# Altium schematic symbol library SparkFun-Retired.SCHLIB: 411 symbols (part 1 of 6)
Pins are listed as number, name and electrical type; pins without a type are passive.

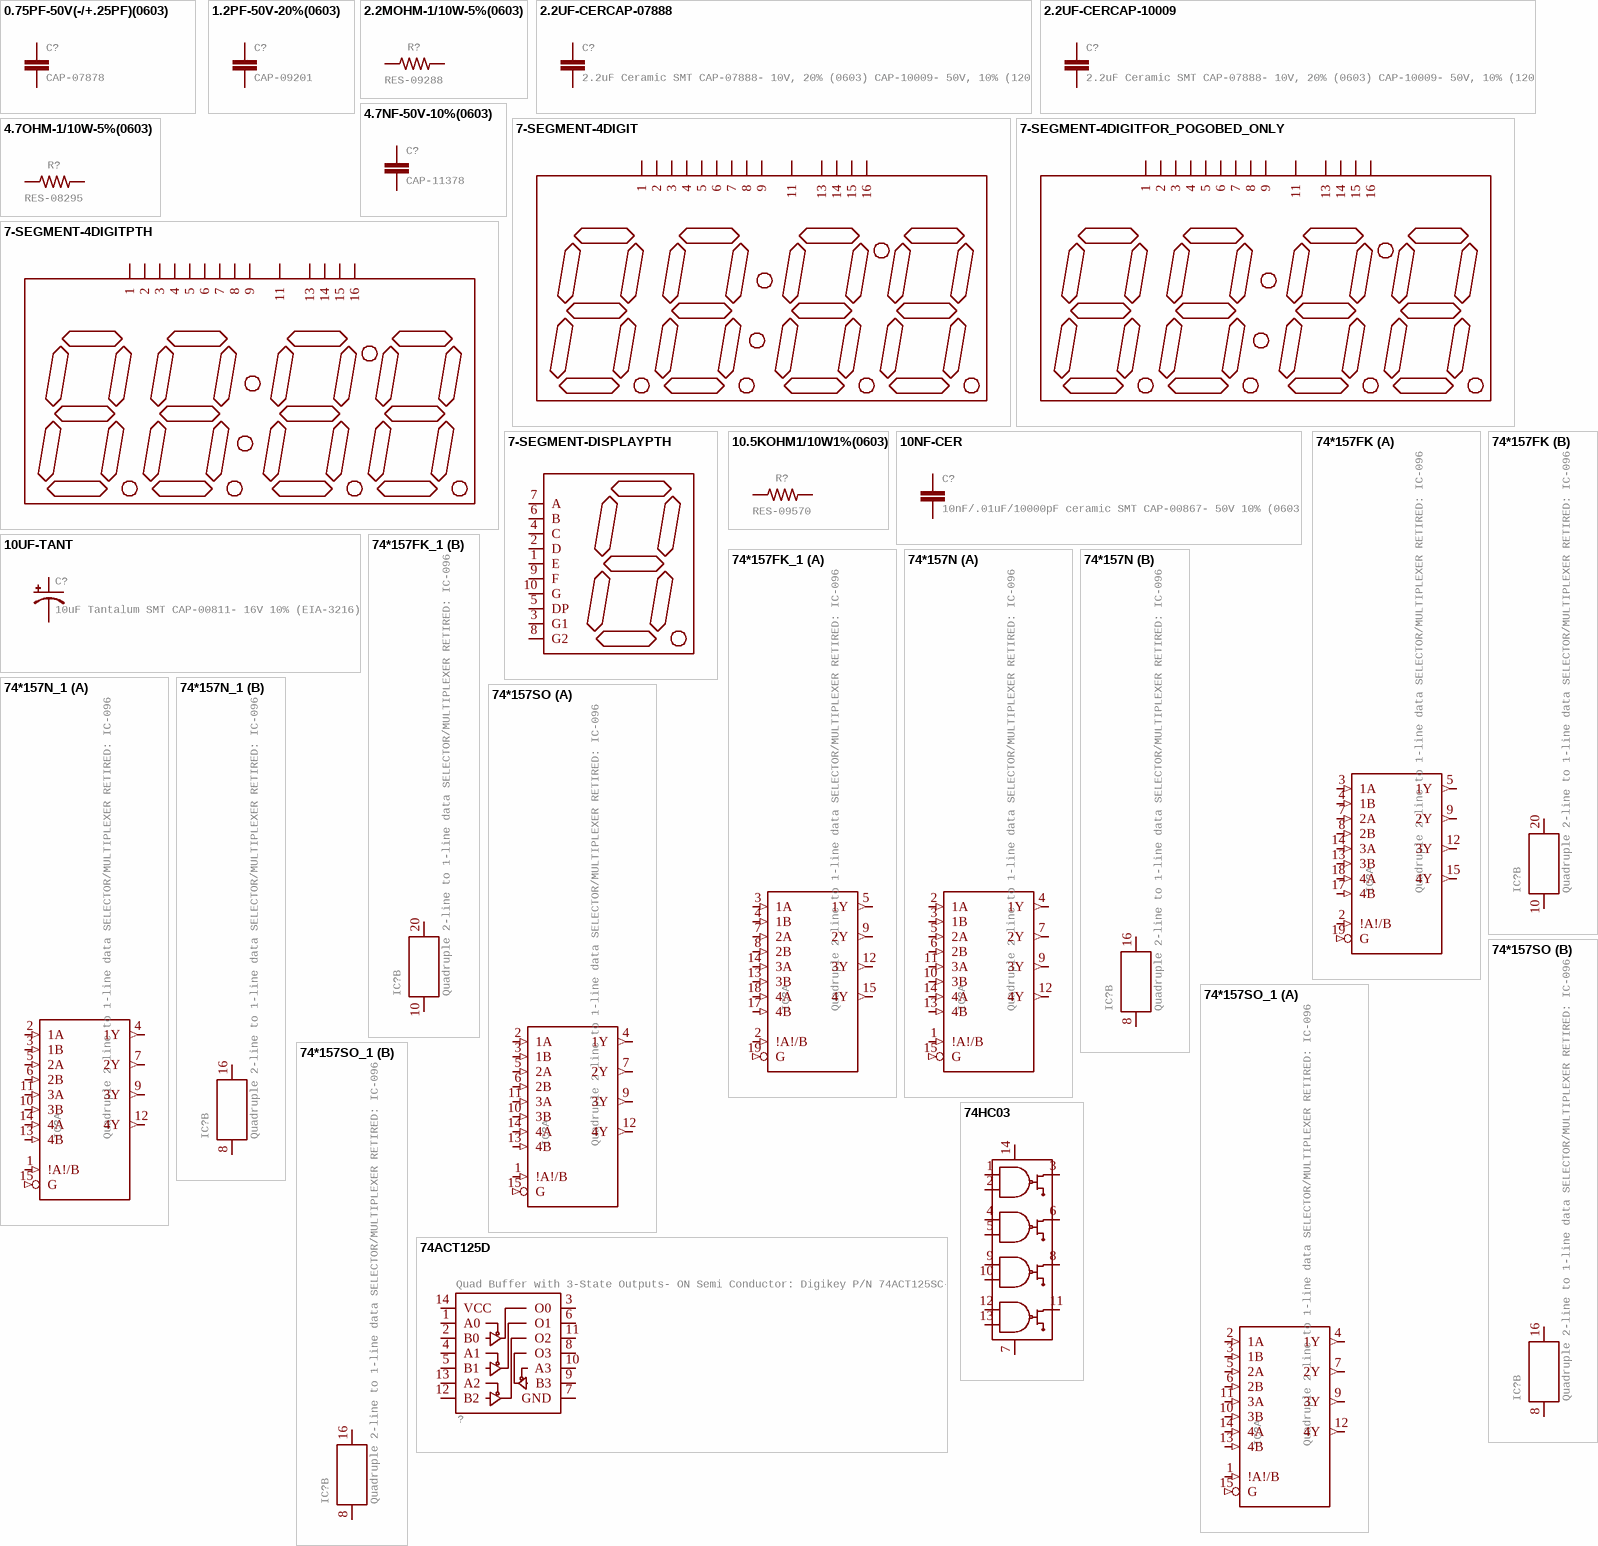
[diagram p0: symbols 0.75PF-50V(-/+.25PF)(0603) to 74HC03]

## 0.75PF-50V(-/+.25PF)(0603)
designator C?, comment CAP-07878
GateName_1: G$1; SymbolName_1: CAP-1; DeviceSetName: 0.75PF-50V(-/+.25PF)(0603); LibraryName: SparkFun-Retired; Package: 0603; PROD_ID: CAP-07878
footprint 0603
pins: 1, 2

## 1.2PF-50V-20%(0603)
designator C?, comment CAP-09201
GateName_1: G$1; SymbolName_1: CAP-1; DeviceSetName: 1.2PF-50V-20%(0603); LibraryName: SparkFun-Retired; Package: 0603; PROD_ID: CAP-09201
footprint 0603
pins: 1, 2

## 2.2MOHM-1/10W-5%(0603)
designator R?, comment RES-09288
GateName_1: G$1; SymbolName_1: RESISTOR; DeviceSetName: 2.2MOHM-1/10W-5%(0603); LibraryName: SparkFun-Retired; Package: 0603; PROD_ID: RES-09288
footprint 0603
pins: 1, 2

## 2.2UF-CERCAP-07888
designator C?, comment 2.2uF Ceramic SMT CAP-07888- 10V, 20% (0603) CAP-10009- 50V, 10% (1206)
GateName_1: G$1; SymbolName_1: CAP; DeviceSetName: 2.2UF-CER; DeviceName: CAP-07888; LibraryName: SparkFun-Retired; Package: 0402-CAP; PROD_ID: CAP-07888
footprint 0402-CAP
pins: 1, 2

## 2.2UF-CERCAP-10009
designator C?, comment 2.2uF Ceramic SMT CAP-07888- 10V, 20% (0603) CAP-10009- 50V, 10% (1206)
GateName_1: G$1; SymbolName_1: CAP; DeviceSetName: 2.2UF-CER; DeviceName: CAP-10009; LibraryName: SparkFun-Retired; Package: 1206; PROD_ID: CAP-10009
footprint 1206
pins: 1, 2

## 4.7NF-50V-10%(0603)
designator C?, comment CAP-11378
GateName_1: G$1; SymbolName_1: CAP-1; DeviceSetName: 4.7NF-50V-10%(0603); LibraryName: SparkFun-Retired; Package: 0603; PROD_ID: CAP-11378
footprint 0603
pins: 1, 2

## 4.7OHM-1/10W-5%(0603)
designator R?, comment RES-08295
GateName_1: G$1; SymbolName_1: RESISTOR; DeviceSetName: 4.7OHM-1/10W-5%(0603); LibraryName: SparkFun-Retired; Package: 0603; PROD_ID: RES-08295
footprint 0603
pins: 1, 2

## 7-SEGMENT-4DIGIT
designator ?
GateName_1: G$1; SymbolName_1: 7-SEGMENT-4DIGIT; LibraryName: SparkFun-Retired; DeviceSetName: 7-SEGMENT-4DIGIT; Package: 7-SEGMENT-4DIGIT-YOUNGSUN
footprint 7-SEGMENT-4DIGIT-YOUNGSUN
pins: 1 (io), 2 (io), 3 (io), 4 (io), 5 (io), 6 (io), 7 (io), 8 (io), 9 (io), 11 (io), 13 (io), 14 (io), 15 (io), 16 (io)

## 7-SEGMENT-4DIGITFOR_POGOBED_ONLY
designator ?
GateName_1: G$1; SymbolName_1: 7-SEGMENT-4DIGIT; DeviceName: FOR_POGOBED_ONLY; LibraryName: SparkFun-Retired; DeviceSetName: 7-SEGMENT-4DIGIT; Package: 7-SEGMENT-4DIGIT_LONGPADS_FOR_POGOBED
footprint 7-SEGMENT-4DIGIT_LONGPADS_FOR_POGOBED
pins: 1 (io), 2 (io), 3 (io), 4 (io), 5 (io), 6 (io), 7 (io), 8 (io), 9 (io), 11 (io), 13 (io), 14 (io), 15 (io), 16 (io)

## 7-SEGMENT-4DIGITPTH
designator ?
GateName_1: G$1; SymbolName_1: 7-SEGMENT-4DIGIT; DeviceName: PTH; LibraryName: SparkFun-Retired; DeviceSetName: 7-SEGMENT-4DIGIT; Package: 7-SEGMENT-4DIGIT
footprint 7-SEGMENT-4DIGIT
pins: 1 (io), 2 (io), 3 (io), 4 (io), 5 (io), 6 (io), 7 (io), 8 (io), 9 (io), 11 (io), 13 (io), 14 (io), 15 (io), 16 (io)

## 7-SEGMENT-DISPLAYPTH
designator ?
GateName_1: G$1; SymbolName_1: 7-SEGMENT-DISPLAY; DeviceName: PTH; LibraryName: SparkFun-Retired; DeviceSetName: 7-SEGMENT-DISPLAY; Package: 7-SEGMENT-DISPLAY
footprint 7-SEGMENT-DISPLAY
pins: 1 E (io), 2 D (io), 3 G1 (io), 4 C (io), 5 DP (io), 6 B (io), 7 A (io), 8 G2 (io), 9 F (io), 10 G (io)

## 10.5KOHM1/10W1%(0603)
designator R?, comment RES-09570
GateName_1: G$1; SymbolName_1: RESISTOR; DeviceSetName: 10.5KOHM1/10W1%(0603); LibraryName: SparkFun-Retired; Package: 0603; PROD_ID: RES-09570
footprint 0603
pins: 1, 2

## 10NF-CER
designator C?, comment 10nF/.01uF/10000pF ceramic SMT CAP-00867- 50V 10% (0603)
GateName_1: G$1; SymbolName_1: CAP; DeviceSetName: 10NF-CER; LibraryName: SparkFun-Retired; Package: 0402-CAP; PROD_ID: CAP-00867
footprint 0402-CAP
pins: 1, 2

## 10UF-TANT
designator C?, comment 10uF Tantalum SMT CAP-00811- 16V 10% (EIA-3216)
GateName_1: G$1; SymbolName_1: CAP_POL; DeviceSetName: 10UF-TANT; LibraryName: SparkFun-Retired; Package: EIA3216; PROD_ID: CAP-00811
footprint EIA3216
pins: A +, C -

## 74*157FK
designator IC?, comment Quadruple 2-line to 1-line data SELECTOR/MULTIPLEXER RETIRED: IC-09602
GateName_1: A; SymbolName_1: 74157; GateName_2: G$1; SymbolName_2: POWER_CONSORT; DeviceName: FK; DeviceSetName: 74*157; LibraryName: SparkFun-Retired; Package: LCC20
footprint LCC20
part A pins: 2 !A!/B (in), 3 1A (in), 4 1B (in), 5 1Y (out), 7 2A (in), 8 2B (in), 9 2Y (out), 12 3Y (out), 13 3B (in), 14 3A (in), 15 4Y (out), 17 4B (in), 18 4A (in), 19 G (in)
part B pins: 10 P$V- (io), 20 P$V+ (io)

## 74*157FK_1
designator IC?, comment Quadruple 2-line to 1-line data SELECTOR/MULTIPLEXER RETIRED: IC-09602
GateName_1: A; SymbolName_1: 74157; GateName_2: G$1; SymbolName_2: POWER_CONSORT; DeviceName: FK; DeviceSetName: 74*157; LibraryName: SparkFun-Retired; Package: LCC20
footprint LCC20
part A pins: 2 !A!/B (in), 3 1A (in), 4 1B (in), 5 1Y (out), 7 2A (in), 8 2B (in), 9 2Y (out), 12 3Y (out), 13 3B (in), 14 3A (in), 15 4Y (out), 17 4B (in), 18 4A (in), 19 G (in)
part B pins: 10 P$V- (io), 20 P$V+ (io)

## 74*157N
designator IC?, comment Quadruple 2-line to 1-line data SELECTOR/MULTIPLEXER RETIRED: IC-09602
GateName_1: A; SymbolName_1: 74157; GateName_2: G$1; SymbolName_2: POWER_CONSORT; DeviceName: N; DeviceSetName: 74*157; LibraryName: SparkFun-Retired; Package: DIP16
footprint DIP16
part A pins: 1 !A!/B (in), 2 1A (in), 3 1B (in), 4 1Y (out), 5 2A (in), 6 2B (in), 7 2Y (out), 9 3Y (out), 10 3B (in), 11 3A (in), 12 4Y (out), 13 4B (in), 14 4A (in), 15 G (in)
part B pins: 8 P$V- (io), 16 P$V+ (io)

## 74*157N_1
designator IC?, comment Quadruple 2-line to 1-line data SELECTOR/MULTIPLEXER RETIRED: IC-09602
GateName_1: A; SymbolName_1: 74157; GateName_2: G$1; SymbolName_2: POWER_CONSORT; DeviceName: N; DeviceSetName: 74*157; LibraryName: SparkFun-Retired; Package: DIP16
footprint DIP16
part A pins: 1 !A!/B (in), 2 1A (in), 3 1B (in), 4 1Y (out), 5 2A (in), 6 2B (in), 7 2Y (out), 9 3Y (out), 10 3B (in), 11 3A (in), 12 4Y (out), 13 4B (in), 14 4A (in), 15 G (in)
part B pins: 8 P$V- (io), 16 P$V+ (io)

## 74*157SO
designator IC?, comment Quadruple 2-line to 1-line data SELECTOR/MULTIPLEXER RETIRED: IC-09602
GateName_1: A; SymbolName_1: 74157; GateName_2: G$1; SymbolName_2: POWER_CONSORT; DeviceName: SO; DeviceSetName: 74*157; LibraryName: SparkFun-Retired; Package: SO16
footprint SO16
part A pins: 1 !A!/B (in), 2 1A (in), 3 1B (in), 4 1Y (out), 5 2A (in), 6 2B (in), 7 2Y (out), 9 3Y (out), 10 3B (in), 11 3A (in), 12 4Y (out), 13 4B (in), 14 4A (in), 15 G (in)
part B pins: 8 P$V- (io), 16 P$V+ (io)

## 74*157SO_1
designator IC?, comment Quadruple 2-line to 1-line data SELECTOR/MULTIPLEXER RETIRED: IC-09602
GateName_1: A; SymbolName_1: 74157; GateName_2: G$1; SymbolName_2: POWER_CONSORT; DeviceName: SO; DeviceSetName: 74*157; LibraryName: SparkFun-Retired; Package: SO16
footprint SO16
part A pins: 1 !A!/B (in), 2 1A (in), 3 1B (in), 4 1Y (out), 5 2A (in), 6 2B (in), 7 2Y (out), 9 3Y (out), 10 3B (in), 11 3A (in), 12 4Y (out), 13 4B (in), 14 4A (in), 15 G (in)
part B pins: 8 P$V- (io), 16 P$V+ (io)

## 74ACT125D
designator ?, comment Quad Buffer with 3-State Outputs- ON Semi Conductor: Digikey P/N 74ACT125SC-ND
GateName_1: G$1; SymbolName_1: 74ACT125D; LibraryName: SparkFun-Retired; DeviceSetName: 74ACT125D; Package: SO014
footprint SO014
pins: 1 A0 (io), 2 B0 (io), 3 O0 (io), 4 A1 (io), 5 B1 (io), 6 O1 (io), 7 GND (io), 8 O3 (io), 9 B3 (io), 10 A3 (io), 11 O2 (io), 12 B2 (io), 13 A2 (io), 14 VCC (io)

## 74HC03
designator ?, comment Quad 2-input open-drain NAND 2-5V operating voltage Some part numbers may include a clamping diode from OD output to VCC; check datasheet for specific part. We use an NXP part which does NOT have a clamping diode.   Doesn't seem to be in inventory anywhere.  We have nands but not open-drain  (value not drawn)
GateName_1: G$1; SymbolName_1: 74HC03; LibraryName: SparkFun-Retired; DeviceSetName: 74HC03; Package: TSSOP14
footprint TSSOP14
pins: 1 A1 (io), 2 B1 (io), 3 Y1 (io), 4 A2 (io), 5 B2 (io), 6 Y2 (io), 7 VSS (io), 8 Y3 (io), 9 A3 (io), 10 B3 (io), 11 Y4 (io), 12 A4 (io), 13 B4 (io), 14 VCC (io)

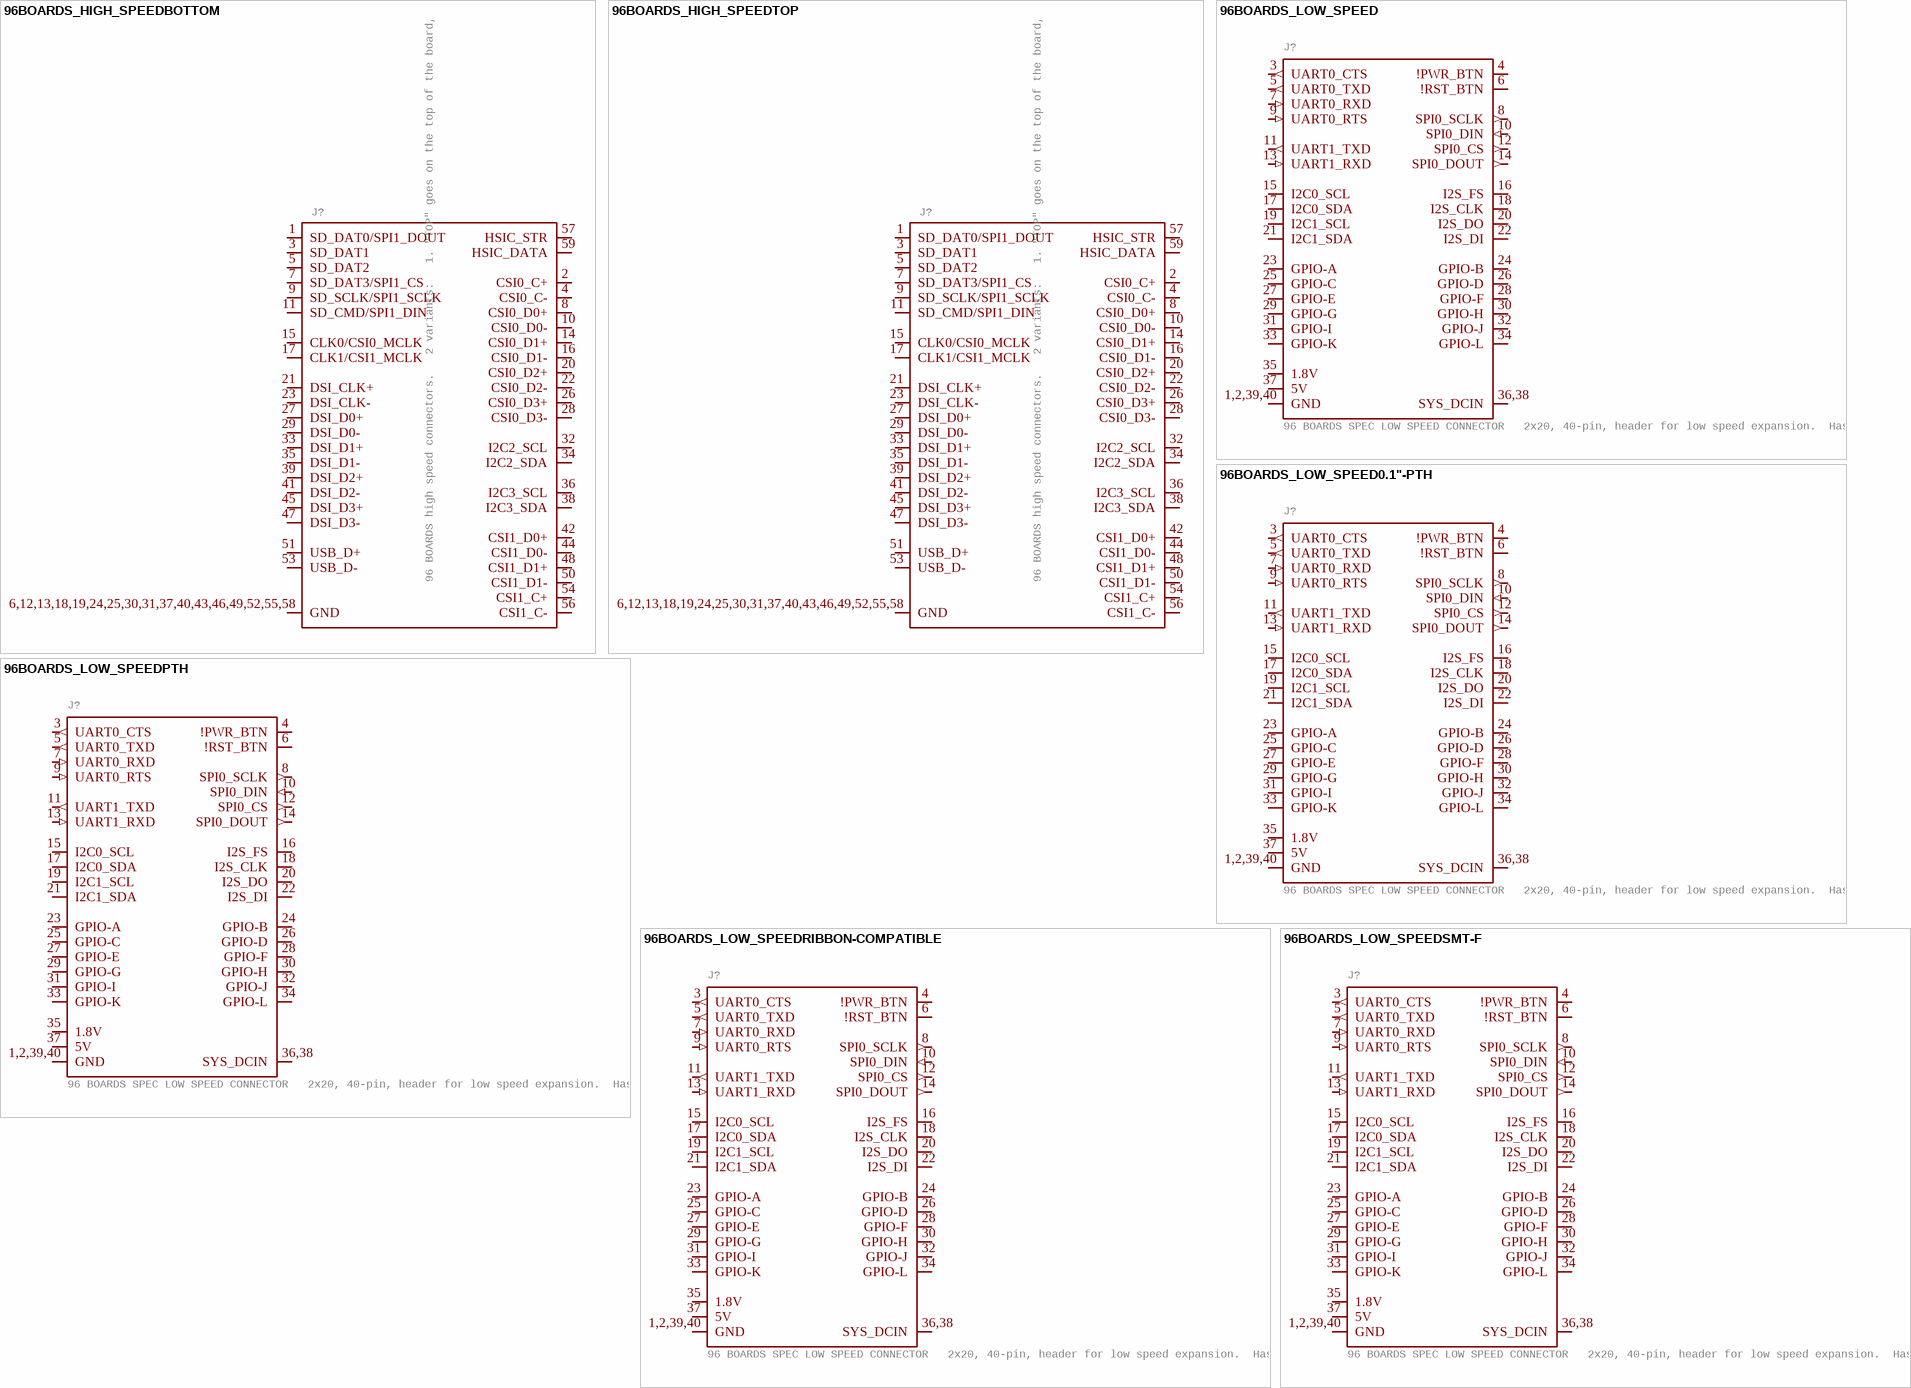
[diagram p1: symbols 96BOARDS_HIGH_SPEEDBOTTOM to 96BOARDS_LOW_SPEEDSMT-F]

## 96BOARDS_HIGH_SPEEDBOTTOM
designator J?, comment 96 BOARDS high speed connectors.   2 variants:   1. "TOP" goes on the top of the board, called a "Receptacale" in the parlance.  Candidate parts would be FCI/Bergquist 61082-061409LF   2. "BOTTOM" goes on the bottom of a board.  Candidate parts would be FCI 61083-063409LF for 7mm board-to-board clearance, or  61083-064409LF for 8mm clearance.   If you're placing one on the bottom of a board, take care to mind the pin-1 orientation.
GateName_1: G$1; SymbolName_1: 96BOARDS-HI-SPEED; DeviceSetName: 96BOARDS_HIGH_SPEED; DeviceName: BOTTOM; LibraryName: SparkFun-Retired; Package: 2X30-BERGSTAK-0.8MM-F
footprint 2X30-BERGSTAK-0.8MM-F
pins: 1 SD_DAT0/SPI1_DOUT (io), 2 CSI0_C+ (io), 3 SD_DAT1 (io), 4 CSI0_C- (io), 5 SD_DAT2 (io), 6,12,13,18,19,24,25,30,31,37,40,43,46,49,52,55,58 GND (io), 7 SD_DAT3/SPI1_CS (io), 8 CSI0_D0+ (io), 9 SD_SCLK/SPI1_SCLK (io), 10 CSI0_D0- (io), 11 SD_CMD/SPI1_DIN (io), 14 CSI0_D1+ (io), 15 CLK0/CSI0_MCLK (io), 16 CSI0_D1- (io), 17 CLK1/CSI1_MCLK (io), 20 CSI0_D2+ (io), 21 DSI_CLK+ (io), 22 CSI0_D2- (io), 23 DSI_CLK- (io), 26 CSI0_D3+ (io), 27 DSI_D0+ (io), 28 CSI0_D3- (io), 29 DSI_D0- (io), 32 I2C2_SCL (io), 33 DSI_D1+ (io), 34 I2C2_SDA (io), 35 DSI_D1- (io), 36 I2C3_SCL (io), 38 I2C3_SDA (io), 39 DSI_D2+ (io), 41 DSI_D2- (io), 42 CSI1_D0+ (io), 44 CSI1_D0- (io), 45 DSI_D3+ (io), 47 DSI_D3- (io), 48 CSI1_D1+ (io), 50 CSI1_D1- (io), 51 USB_D+ (io), 53 USB_D- (io), 54 CSI1_C+ (io), 56 CSI1_C- (io), 57 HSIC_STR (io), 59 HSIC_DATA (io)

## 96BOARDS_HIGH_SPEEDTOP
designator J?, comment 96 BOARDS high speed connectors.   2 variants:   1. "TOP" goes on the top of the board, called a "Receptacale" in the parlance.  Candidate parts would be FCI/Bergquist 61082-061409LF   2. "BOTTOM" goes on the bottom of a board.  Candidate parts would be FCI 61083-063409LF for 7mm board-to-board clearance, or  61083-064409LF for 8mm clearance.   If you're placing one on the bottom of a board, take care to mind the pin-1 orientation.
GateName_1: G$1; SymbolName_1: 96BOARDS-HI-SPEED; DeviceSetName: 96BOARDS_HIGH_SPEED; DeviceName: TOP; LibraryName: SparkFun-Retired; Package: 2X30-BERGSTAK-0.8MM-M
footprint 2X30-BERGSTAK-0.8MM-M
pins: 1 SD_DAT0/SPI1_DOUT (io), 2 CSI0_C+ (io), 3 SD_DAT1 (io), 4 CSI0_C- (io), 5 SD_DAT2 (io), 6,12,13,18,19,24,25,30,31,37,40,43,46,49,52,55,58 GND (io), 7 SD_DAT3/SPI1_CS (io), 8 CSI0_D0+ (io), 9 SD_SCLK/SPI1_SCLK (io), 10 CSI0_D0- (io), 11 SD_CMD/SPI1_DIN (io), 14 CSI0_D1+ (io), 15 CLK0/CSI0_MCLK (io), 16 CSI0_D1- (io), 17 CLK1/CSI1_MCLK (io), 20 CSI0_D2+ (io), 21 DSI_CLK+ (io), 22 CSI0_D2- (io), 23 DSI_CLK- (io), 26 CSI0_D3+ (io), 27 DSI_D0+ (io), 28 CSI0_D3- (io), 29 DSI_D0- (io), 32 I2C2_SCL (io), 33 DSI_D1+ (io), 34 I2C2_SDA (io), 35 DSI_D1- (io), 36 I2C3_SCL (io), 38 I2C3_SDA (io), 39 DSI_D2+ (io), 41 DSI_D2- (io), 42 CSI1_D0+ (io), 44 CSI1_D0- (io), 45 DSI_D3+ (io), 47 DSI_D3- (io), 48 CSI1_D1+ (io), 50 CSI1_D1- (io), 51 USB_D+ (io), 53 USB_D- (io), 54 CSI1_C+ (io), 56 CSI1_C- (io), 57 HSIC_STR (io), 59 HSIC_DATA (io)

## 96BOARDS_LOW_SPEED
designator J?, comment 96 BOARDS SPEC LOW SPEED CONNECTOR   2x20, 40-pin, header for low speed expansion.  Has UARTS, I2C, I2S, SPI and GPIO.  * 2mm-pitch variant interfaces directly with the header on a 96-boards-compliant board. * 0.1-pitch version is for applications where the header has been translated to the larger, more available 0.1" 2x20 connector.  For more details, see the spec at https://www.96boards.org
GateName_1: G$1; SymbolName_1: 96BOARDS-LO-SPEED; DeviceSetName: 96BOARDS_LOW_SPEED; LibraryName: SparkFun-Retired; Package: 2X20-2MM-SHROUDED-RA-PTH
footprint 2X20-2MM-SHROUDED-RA-PTH
pins: 1,2,39,40 GND (power), 3 UART0_CTS (out), 4 !PWR_BTN (io), 5 UART0_TXD (out), 6 !RST_BTN (io), 7 UART0_RXD (in), 8 SPI0_SCLK (out), 9 UART0_RTS (in), 10 SPI0_DIN (in), 11 UART1_TXD (out), 12 SPI0_CS (out), 13 UART1_RXD (in), 14 SPI0_DOUT (out), 15 I2C0_SCL (io), 16 I2S_FS (io), 17 I2C0_SDA (io), 18 I2S_CLK (io), 19 I2C1_SCL (io), 20 I2S_DO (io), 21 I2C1_SDA (io), 22 I2S_DI (io), 23 GPIO-A (io), 24 GPIO-B (io), 25 GPIO-C (io), 26 GPIO-D (io), 27 GPIO-E (io), 28 GPIO-F (io), 29 GPIO-G (io), 30 GPIO-H (io), 31 GPIO-I (io), 32 GPIO-J (io), 33 GPIO-K (io), 34 GPIO-L (io), 35 1.8V (power), 36,38 SYS_DCIN (power), 37 5V (power)

## 96BOARDS_LOW_SPEED0.1"-PTH
designator J?, comment 96 BOARDS SPEC LOW SPEED CONNECTOR   2x20, 40-pin, header for low speed expansion.  Has UARTS, I2C, I2S, SPI and GPIO.  * 2mm-pitch variant interfaces directly with the header on a 96-boards-compliant board. * 0.1-pitch version is for applications where the header has been translated to the larger, more available 0.1" 2x20 connector.  For more details, see the spec at https://www.96boards.org
GateName_1: G$1; SymbolName_1: 96BOARDS-LO-SPEED; DeviceName: 0.1"-PTH; DeviceSetName: 96BOARDS_LOW_SPEED; LibraryName: SparkFun-Retired; Package: 2X20-SHROUDED
footprint 2X20-SHROUDED
pins: 1,2,39,40 GND (power), 3 UART0_CTS (out), 4 !PWR_BTN (io), 5 UART0_TXD (out), 6 !RST_BTN (io), 7 UART0_RXD (in), 8 SPI0_SCLK (out), 9 UART0_RTS (in), 10 SPI0_DIN (in), 11 UART1_TXD (out), 12 SPI0_CS (out), 13 UART1_RXD (in), 14 SPI0_DOUT (out), 15 I2C0_SCL (io), 16 I2S_FS (io), 17 I2C0_SDA (io), 18 I2S_CLK (io), 19 I2C1_SCL (io), 20 I2S_DO (io), 21 I2C1_SDA (io), 22 I2S_DI (io), 23 GPIO-A (io), 24 GPIO-B (io), 25 GPIO-C (io), 26 GPIO-D (io), 27 GPIO-E (io), 28 GPIO-F (io), 29 GPIO-G (io), 30 GPIO-H (io), 31 GPIO-I (io), 32 GPIO-J (io), 33 GPIO-K (io), 34 GPIO-L (io), 35 1.8V (power), 36,38 SYS_DCIN (power), 37 5V (power)

## 96BOARDS_LOW_SPEEDPTH
designator J?, comment 96 BOARDS SPEC LOW SPEED CONNECTOR   2x20, 40-pin, header for low speed expansion.  Has UARTS, I2C, I2S, SPI and GPIO.  * 2mm-pitch variant interfaces directly with the header on a 96-boards-compliant board. * 0.1-pitch version is for applications where the header has been translated to the larger, more available 0.1" 2x20 connector.  For more details, see the spec at https://www.96boards.org
GateName_1: G$1; SymbolName_1: 96BOARDS-LO-SPEED; DeviceName: PTH; DeviceSetName: 96BOARDS_LOW_SPEED; LibraryName: SparkFun-Retired; Package: 2X20-2MM-SHROUDED-PTH
footprint 2X20-2MM-SHROUDED-PTH
pins: 1,2,39,40 GND (power), 3 UART0_CTS (out), 4 !PWR_BTN (io), 5 UART0_TXD (out), 6 !RST_BTN (io), 7 UART0_RXD (in), 8 SPI0_SCLK (out), 9 UART0_RTS (in), 10 SPI0_DIN (in), 11 UART1_TXD (out), 12 SPI0_CS (out), 13 UART1_RXD (in), 14 SPI0_DOUT (out), 15 I2C0_SCL (io), 16 I2S_FS (io), 17 I2C0_SDA (io), 18 I2S_CLK (io), 19 I2C1_SCL (io), 20 I2S_DO (io), 21 I2C1_SDA (io), 22 I2S_DI (io), 23 GPIO-A (io), 24 GPIO-B (io), 25 GPIO-C (io), 26 GPIO-D (io), 27 GPIO-E (io), 28 GPIO-F (io), 29 GPIO-G (io), 30 GPIO-H (io), 31 GPIO-I (io), 32 GPIO-J (io), 33 GPIO-K (io), 34 GPIO-L (io), 35 1.8V (power), 36,38 SYS_DCIN (power), 37 5V (power)

## 96BOARDS_LOW_SPEEDRIBBON-COMPATIBLE
designator J?, comment 96 BOARDS SPEC LOW SPEED CONNECTOR   2x20, 40-pin, header for low speed expansion.  Has UARTS, I2C, I2S, SPI and GPIO.  * 2mm-pitch variant interfaces directly with the header on a 96-boards-compliant board. * 0.1-pitch version is for applications where the header has been translated to the larger, more available 0.1" 2x20 connector.  For more details, see the spec at https://www.96boards.org
GateName_1: G$1; SymbolName_1: 96BOARDS-LO-SPEED; DeviceName: RIBBON-COMPATIBLE; DeviceSetName: 96BOARDS_LOW_SPEED; LibraryName: SparkFun-Retired; Package: 2X20-2MM-SHROUDED-SMT-RIBBON-M
footprint 2X20-2MM-SHROUDED-SMT-RIBBON-M
pins: 1,2,39,40 GND (power), 3 UART0_CTS (out), 4 !PWR_BTN (io), 5 UART0_TXD (out), 6 !RST_BTN (io), 7 UART0_RXD (in), 8 SPI0_SCLK (out), 9 UART0_RTS (in), 10 SPI0_DIN (in), 11 UART1_TXD (out), 12 SPI0_CS (out), 13 UART1_RXD (in), 14 SPI0_DOUT (out), 15 I2C0_SCL (io), 16 I2S_FS (io), 17 I2C0_SDA (io), 18 I2S_CLK (io), 19 I2C1_SCL (io), 20 I2S_DO (io), 21 I2C1_SDA (io), 22 I2S_DI (io), 23 GPIO-A (io), 24 GPIO-B (io), 25 GPIO-C (io), 26 GPIO-D (io), 27 GPIO-E (io), 28 GPIO-F (io), 29 GPIO-G (io), 30 GPIO-H (io), 31 GPIO-I (io), 32 GPIO-J (io), 33 GPIO-K (io), 34 GPIO-L (io), 35 1.8V (power), 36,38 SYS_DCIN (power), 37 5V (power)

## 96BOARDS_LOW_SPEEDSMT-F
designator J?, comment 96 BOARDS SPEC LOW SPEED CONNECTOR   2x20, 40-pin, header for low speed expansion.  Has UARTS, I2C, I2S, SPI and GPIO.  * 2mm-pitch variant interfaces directly with the header on a 96-boards-compliant board. * 0.1-pitch version is for applications where the header has been translated to the larger, more available 0.1" 2x20 connector.  For more details, see the spec at https://www.96boards.org
GateName_1: G$1; SymbolName_1: 96BOARDS-LO-SPEED; DeviceName: SMT-F; DeviceSetName: 96BOARDS_LOW_SPEED; PROD_ID: CONN-12977; LibraryName: SparkFun-Retired; Package: 2X20-2MM-SMT-F
footprint 2X20-2MM-SMT-F
pins: 1,2,39,40 GND (power), 3 UART0_CTS (out), 4 !PWR_BTN (io), 5 UART0_TXD (out), 6 !RST_BTN (io), 7 UART0_RXD (in), 8 SPI0_SCLK (out), 9 UART0_RTS (in), 10 SPI0_DIN (in), 11 UART1_TXD (out), 12 SPI0_CS (out), 13 UART1_RXD (in), 14 SPI0_DOUT (out), 15 I2C0_SCL (io), 16 I2S_FS (io), 17 I2C0_SDA (io), 18 I2S_CLK (io), 19 I2C1_SCL (io), 20 I2S_DO (io), 21 I2C1_SDA (io), 22 I2S_DI (io), 23 GPIO-A (io), 24 GPIO-B (io), 25 GPIO-C (io), 26 GPIO-D (io), 27 GPIO-E (io), 28 GPIO-F (io), 29 GPIO-G (io), 30 GPIO-H (io), 31 GPIO-I (io), 32 GPIO-J (io), 33 GPIO-K (io), 34 GPIO-L (io), 35 1.8V (power), 36,38 SYS_DCIN (power), 37 5V (power)

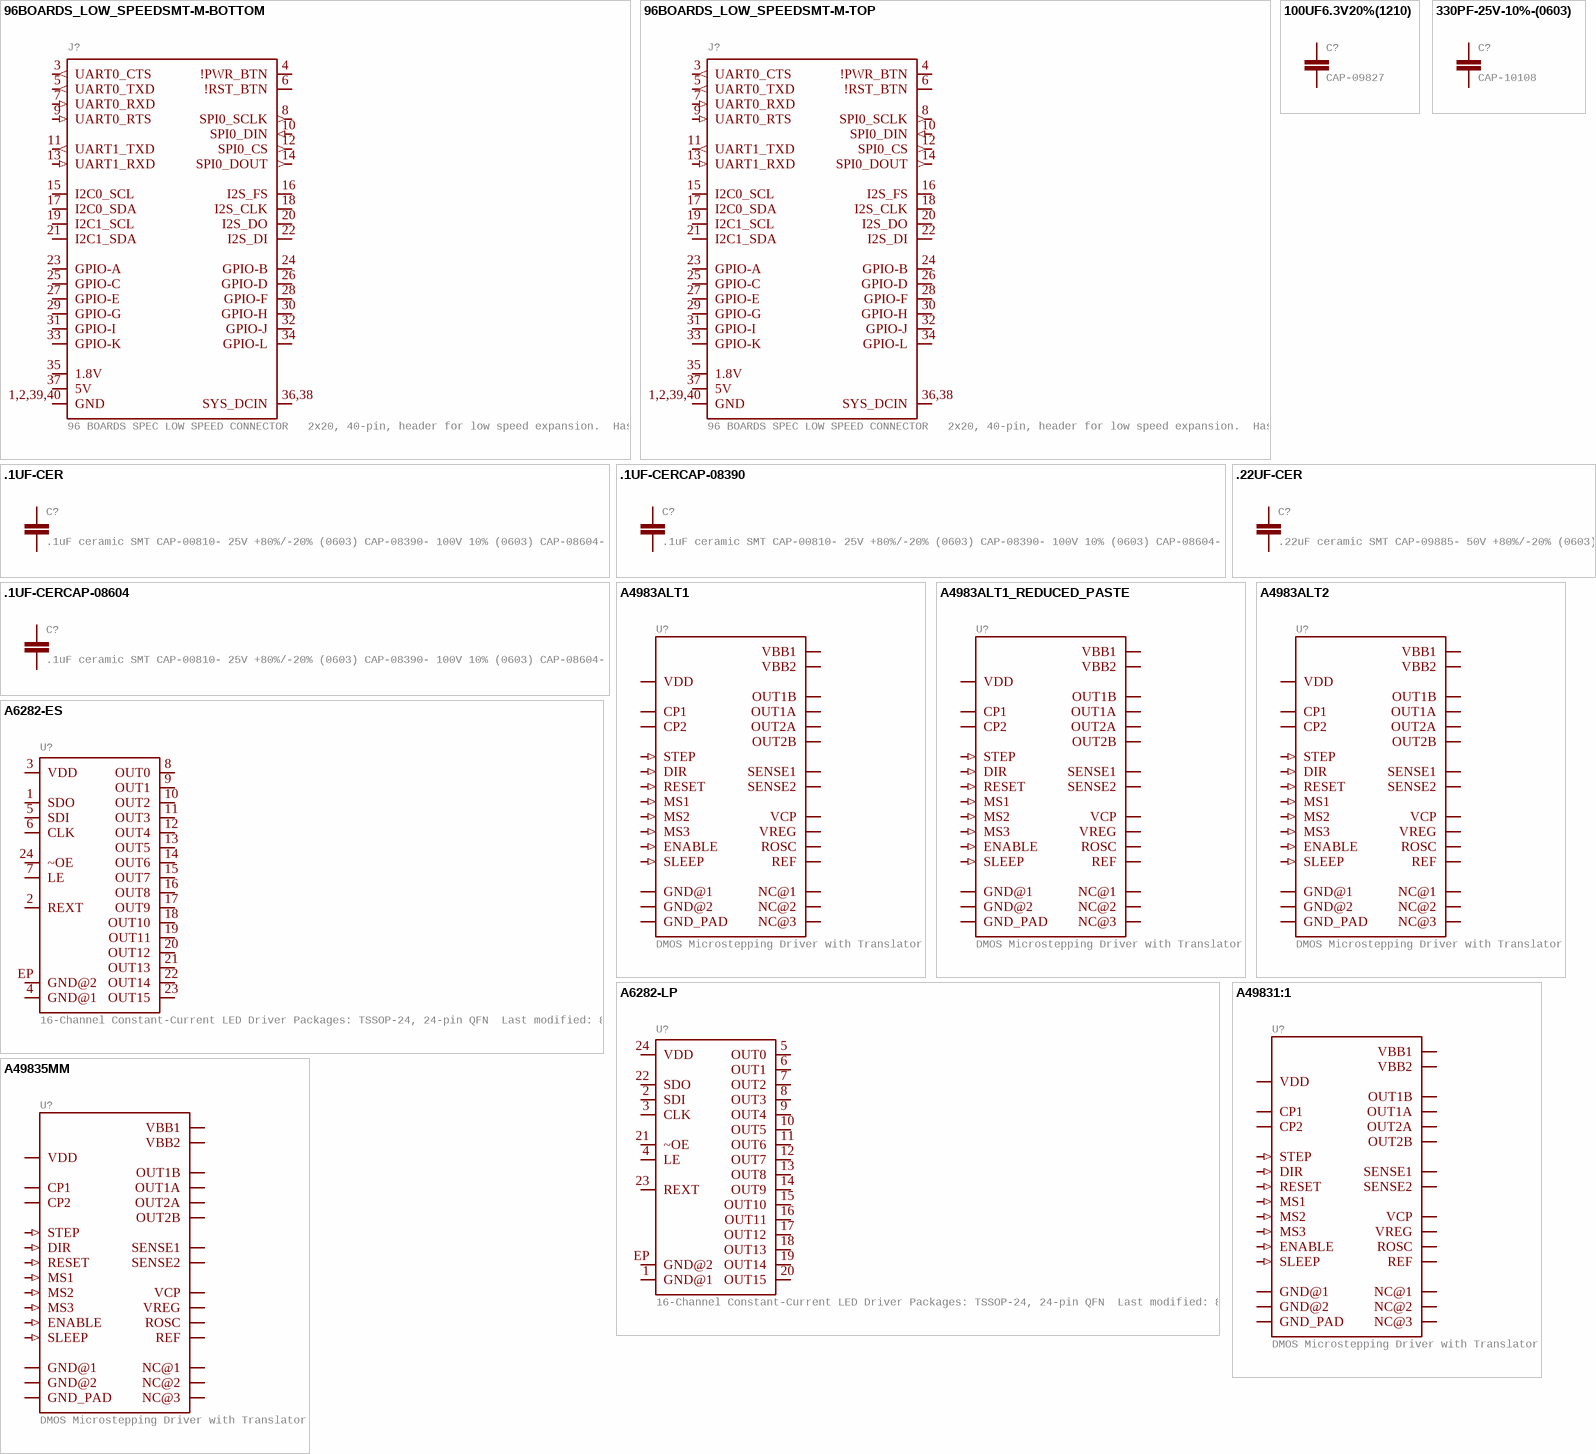
[diagram p2: symbols 96BOARDS_LOW_SPEEDSMT-M-BOTTOM to A49835MM]

## 96BOARDS_LOW_SPEEDSMT-M-BOTTOM
designator J?, comment 96 BOARDS SPEC LOW SPEED CONNECTOR   2x20, 40-pin, header for low speed expansion.  Has UARTS, I2C, I2S, SPI and GPIO.  * 2mm-pitch variant interfaces directly with the header on a 96-boards-compliant board. * 0.1-pitch version is for applications where the header has been translated to the larger, more available 0.1" 2x20 connector.  For more details, see the spec at https://www.96boards.org
GateName_1: G$1; SymbolName_1: 96BOARDS-LO-SPEED; DeviceName: SMT-M-BOTTOM; DeviceSetName: 96BOARDS_LOW_SPEED; PROD_ID: CONN-12975; LibraryName: SparkFun-Retired; Package: 2X20-2MM-SHROUDED-SMT-BOTTOM-M
footprint 2X20-2MM-SHROUDED-SMT-BOTTOM-M
pins: 1,2,39,40 GND (power), 3 UART0_CTS (out), 4 !PWR_BTN (io), 5 UART0_TXD (out), 6 !RST_BTN (io), 7 UART0_RXD (in), 8 SPI0_SCLK (out), 9 UART0_RTS (in), 10 SPI0_DIN (in), 11 UART1_TXD (out), 12 SPI0_CS (out), 13 UART1_RXD (in), 14 SPI0_DOUT (out), 15 I2C0_SCL (io), 16 I2S_FS (io), 17 I2C0_SDA (io), 18 I2S_CLK (io), 19 I2C1_SCL (io), 20 I2S_DO (io), 21 I2C1_SDA (io), 22 I2S_DI (io), 23 GPIO-A (io), 24 GPIO-B (io), 25 GPIO-C (io), 26 GPIO-D (io), 27 GPIO-E (io), 28 GPIO-F (io), 29 GPIO-G (io), 30 GPIO-H (io), 31 GPIO-I (io), 32 GPIO-J (io), 33 GPIO-K (io), 34 GPIO-L (io), 35 1.8V (power), 36,38 SYS_DCIN (power), 37 5V (power)

## 96BOARDS_LOW_SPEEDSMT-M-TOP
designator J?, comment 96 BOARDS SPEC LOW SPEED CONNECTOR   2x20, 40-pin, header for low speed expansion.  Has UARTS, I2C, I2S, SPI and GPIO.  * 2mm-pitch variant interfaces directly with the header on a 96-boards-compliant board. * 0.1-pitch version is for applications where the header has been translated to the larger, more available 0.1" 2x20 connector.  For more details, see the spec at https://www.96boards.org
GateName_1: G$1; SymbolName_1: 96BOARDS-LO-SPEED; DeviceName: SMT-M-TOP; DeviceSetName: 96BOARDS_LOW_SPEED; PROD_ID: CONN-12975; LibraryName: SparkFun-Retired; Package: 2X20-2MM-SHROUDED-SMT-TOP-M
footprint 2X20-2MM-SHROUDED-SMT-TOP-M
pins: 1,2,39,40 GND (power), 3 UART0_CTS (out), 4 !PWR_BTN (io), 5 UART0_TXD (out), 6 !RST_BTN (io), 7 UART0_RXD (in), 8 SPI0_SCLK (out), 9 UART0_RTS (in), 10 SPI0_DIN (in), 11 UART1_TXD (out), 12 SPI0_CS (out), 13 UART1_RXD (in), 14 SPI0_DOUT (out), 15 I2C0_SCL (io), 16 I2S_FS (io), 17 I2C0_SDA (io), 18 I2S_CLK (io), 19 I2C1_SCL (io), 20 I2S_DO (io), 21 I2C1_SDA (io), 22 I2S_DI (io), 23 GPIO-A (io), 24 GPIO-B (io), 25 GPIO-C (io), 26 GPIO-D (io), 27 GPIO-E (io), 28 GPIO-F (io), 29 GPIO-G (io), 30 GPIO-H (io), 31 GPIO-I (io), 32 GPIO-J (io), 33 GPIO-K (io), 34 GPIO-L (io), 35 1.8V (power), 36,38 SYS_DCIN (power), 37 5V (power)

## 100UF6.3V20%(1210)
designator C?, comment CAP-09827
GateName_1: G$1; SymbolName_1: CAP-1; DeviceSetName: 100UF6.3V20%(1210); LibraryName: SparkFun-Retired; Package: 1210; PROD_ID: CAP-09827
footprint 1210
pins: 1, 2

## 330PF-25V-10%-(0603)
designator C?, comment CAP-10108
GateName_1: G$1; SymbolName_1: CAP-1; DeviceSetName: 330PF-25V-10%-(0603); LibraryName: SparkFun-Retired; Package: 0603; PROD_ID: CAP-10108
footprint 0603
pins: 1, 2

## .1UF-CER
designator C?, comment .1uF ceramic SMT CAP-00810- 25V +80%/-20% (0603) CAP-08390- 100V 10% (0603) CAP-08604- 25V 5% (0603)
GateName_1: G$1; SymbolName_1: CAP; DeviceSetName: .1UF-CER; LibraryName: SparkFun-Retired; Package: 0402-CAP; PROD_ID: CAP-00810
footprint 0402-CAP
pins: 1, 2

## .1UF-CERCAP-08390
designator C?, comment .1uF ceramic SMT CAP-00810- 25V +80%/-20% (0603) CAP-08390- 100V 10% (0603) CAP-08604- 25V 5% (0603)
GateName_1: G$1; SymbolName_1: CAP; DeviceSetName: .1UF-CER; DeviceName: CAP-08390; LibraryName: SparkFun-Retired; Package: 0402-CAP; PROD_ID: CAP-08390
footprint 0402-CAP
pins: 1, 2

## .1UF-CERCAP-08604
designator C?, comment .1uF ceramic SMT CAP-00810- 25V +80%/-20% (0603) CAP-08390- 100V 10% (0603) CAP-08604- 25V 5% (0603)
GateName_1: G$1; SymbolName_1: CAP; DeviceSetName: .1UF-CER; DeviceName: CAP-08604; LibraryName: SparkFun-Retired; Package: 0402-CAP; PROD_ID: CAP-08604
footprint 0402-CAP
pins: 1, 2

## .22UF-CER
designator C?, comment .22uF ceramic SMT CAP-09885- 50V +80%/-20% (0603)
GateName_1: G$1; SymbolName_1: CAP; DeviceSetName: .22UF-CER; LibraryName: SparkFun-Retired; Package: 0402-CAP; PROD_ID: CAP-09885
footprint 0402-CAP
pins: 1, 2

## A4983ALT1
designator U?, comment DMOS Microstepping Driver with Translator
GateName_1: G$1; SymbolName_1: A4983; DeviceName: ALT1; PROD_ID: IC-09890; LibraryName: SparkFun-Retired; DeviceSetName: A4983; Package: QFN-28-5MM_ALT1
footprint QFN-28-5MM_ALT1
pins: P$1 OUT2B (io), P$2 ENABLE (in), P$3 GND@1 (power), P$4 CP1 (io), P$5 CP2 (io), P$6 VCP (io), P$7 NC@1, P$8 VREG (io), P$9 MS1 (in), P$10 MS2 (in), P$11 MS3 (in), P$12 RESET (in), P$13 ROSC (io), P$14 SLEEP (in), P$15 VDD (power), P$16 STEP (in), P$17 REF (io), P$18 GND@2 (power), P$19 DIR (in), P$20 NC@2, P$21 OUT1B (io), P$22 VBB1 (io), P$23 SENSE1 (io), P$24 OUT1A (io), P$25 NC@3, P$26 OUT2A (io), P$27 SENSE2 (io), P$28 VBB2 (io), P$29 GND_PAD (power)

## A4983ALT1_REDUCED_PASTE
designator U?, comment DMOS Microstepping Driver with Translator
GateName_1: G$1; SymbolName_1: A4983; DeviceName: ALT1_REDUCED_PASTE; PROD_ID: IC-09890; LibraryName: SparkFun-Retired; DeviceSetName: A4983; Package: QFN-28-5MM_ALT1_REDUCED_PASTE
footprint QFN-28-5MM_ALT1_REDUCED_PASTE
pins: P$1 OUT2B (io), P$2 ENABLE (in), P$3 GND@1 (power), P$4 CP1 (io), P$5 CP2 (io), P$6 VCP (io), P$7 NC@1, P$8 VREG (io), P$9 MS1 (in), P$10 MS2 (in), P$11 MS3 (in), P$12 RESET (in), P$13 ROSC (io), P$14 SLEEP (in), P$15 VDD (power), P$16 STEP (in), P$17 REF (io), P$18 GND@2 (power), P$19 DIR (in), P$20 NC@2, P$21 OUT1B (io), P$22 VBB1 (io), P$23 SENSE1 (io), P$24 OUT1A (io), P$25 NC@3, P$26 OUT2A (io), P$27 SENSE2 (io), P$28 VBB2 (io), P$29 GND_PAD (power)

## A4983ALT2
designator U?, comment DMOS Microstepping Driver with Translator
GateName_1: G$1; SymbolName_1: A4983; DeviceName: ALT2; LibraryName: SparkFun-Retired; DeviceSetName: A4983; Package: QFN-28-5MM_ALT2
footprint QFN-28-5MM_ALT2
pins: P$1 OUT2B (io), P$2 ENABLE (in), P$3 GND@1 (power), P$4 CP1 (io), P$5 CP2 (io), P$6 VCP (io), P$7 NC@1, P$8 VREG (io), P$9 MS1 (in), P$10 MS2 (in), P$11 MS3 (in), P$12 RESET (in), P$13 ROSC (io), P$14 SLEEP (in), P$15 VDD (power), P$16 STEP (in), P$17 REF (io), P$18 GND@2 (power), P$19 DIR (in), P$20 NC@2, P$21 OUT1B (io), P$22 VBB1 (io), P$23 SENSE1 (io), P$24 OUT1A (io), P$25 NC@3, P$26 OUT2A (io), P$27 SENSE2 (io), P$28 VBB2 (io), P$29 GND_PAD (power)

## A6282-ES
designator U?, comment 16-Channel Constant-Current LED Driver Packages: TSSOP-24, 24-pin QFN  Last modified: 8/20/10 Unproven! RETIRED! (and wrong category)
GateName_1: G$1; SymbolName_1: A6282; DeviceName: -ES; LibraryName: SparkFun-Retired; DeviceSetName: A6282; Package: QFN-24_ALT2
footprint QFN-24_ALT2
pins: 1 SDO (io), 2 REXT (io), 3 VDD (io), 4 GND@1 (io), 5 SDI (io), 6 CLK (io), 7 LE (io), 8 OUT0 (io), 9 OUT1 (io), 10 OUT2 (io), 11 OUT3 (io), 12 OUT4 (io), 13 OUT5 (io), 14 OUT6 (io), 15 OUT7 (io), 16 OUT8 (io), 17 OUT9 (io), 18 OUT10 (io), 19 OUT11 (io), 20 OUT12 (io), 21 OUT13 (io), 22 OUT14 (io), 23 OUT15 (io), 24 ~OE (io), EP GND@2 (io)

## A6282-LP
designator U?, comment 16-Channel Constant-Current LED Driver Packages: TSSOP-24, 24-pin QFN  Last modified: 8/20/10 Unproven! RETIRED! (and wrong category)
GateName_1: G$1; SymbolName_1: A6282; DeviceName: -LP; LibraryName: SparkFun-Retired; DeviceSetName: A6282; Package: TSSOP-24
footprint TSSOP-24
pins: 1 GND@1 (io), 2 SDI (io), 3 CLK (io), 4 LE (io), 5 OUT0 (io), 6 OUT1 (io), 7 OUT2 (io), 8 OUT3 (io), 9 OUT4 (io), 10 OUT5 (io), 11 OUT6 (io), 12 OUT7 (io), 13 OUT8 (io), 14 OUT9 (io), 15 OUT10 (io), 16 OUT11 (io), 17 OUT12 (io), 18 OUT13 (io), 19 OUT14 (io), 20 OUT15 (io), 21 ~OE (io), 22 SDO (io), 23 REXT (io), 24 VDD (io), EP GND@2 (io)

## A49831:1
designator U?, comment DMOS Microstepping Driver with Translator
GateName_1: G$1; SymbolName_1: A4983; DeviceName: 1:1; LibraryName: SparkFun-Retired; DeviceSetName: A4983; Package: QFN-28-5MM-1:1
footprint QFN-28-5MM-1:1
pins: P$1 OUT2B (io), P$2 ENABLE (in), P$3 GND@1 (power), P$4 CP1 (io), P$5 CP2 (io), P$6 VCP (io), P$7 NC@1, P$8 VREG (io), P$9 MS1 (in), P$10 MS2 (in), P$11 MS3 (in), P$12 RESET (in), P$13 ROSC (io), P$14 SLEEP (in), P$15 VDD (power), P$16 STEP (in), P$17 REF (io), P$18 GND@2 (power), P$19 DIR (in), P$20 NC@2, P$21 OUT1B (io), P$22 VBB1 (io), P$23 SENSE1 (io), P$24 OUT1A (io), P$25 NC@3, P$26 OUT2A (io), P$27 SENSE2 (io), P$28 VBB2 (io), P$29 GND_PAD (power)

## A49835MM
designator U?, comment DMOS Microstepping Driver with Translator
GateName_1: G$1; SymbolName_1: A4983; DeviceName: 5MM; LibraryName: SparkFun-Retired; DeviceSetName: A4983; Package: QFN-28-5MM
footprint QFN-28-5MM
pins: P$1 OUT2B (io), P$2 ENABLE (in), P$3 GND@1 (power), P$4 CP1 (io), P$5 CP2 (io), P$6 VCP (io), P$7 NC@1, P$8 VREG (io), P$9 MS1 (in), P$10 MS2 (in), P$11 MS3 (in), P$12 RESET (in), P$13 ROSC (io), P$14 SLEEP (in), P$15 VDD (power), P$16 STEP (in), P$17 REF (io), P$18 GND@2 (power), P$19 DIR (in), P$20 NC@2, P$21 OUT1B (io), P$22 VBB1 (io), P$23 SENSE1 (io), P$24 OUT1A (io), P$25 NC@3, P$26 OUT2A (io), P$27 SENSE2 (io), P$28 VBB2 (io), P$29 GND_PAD (power)

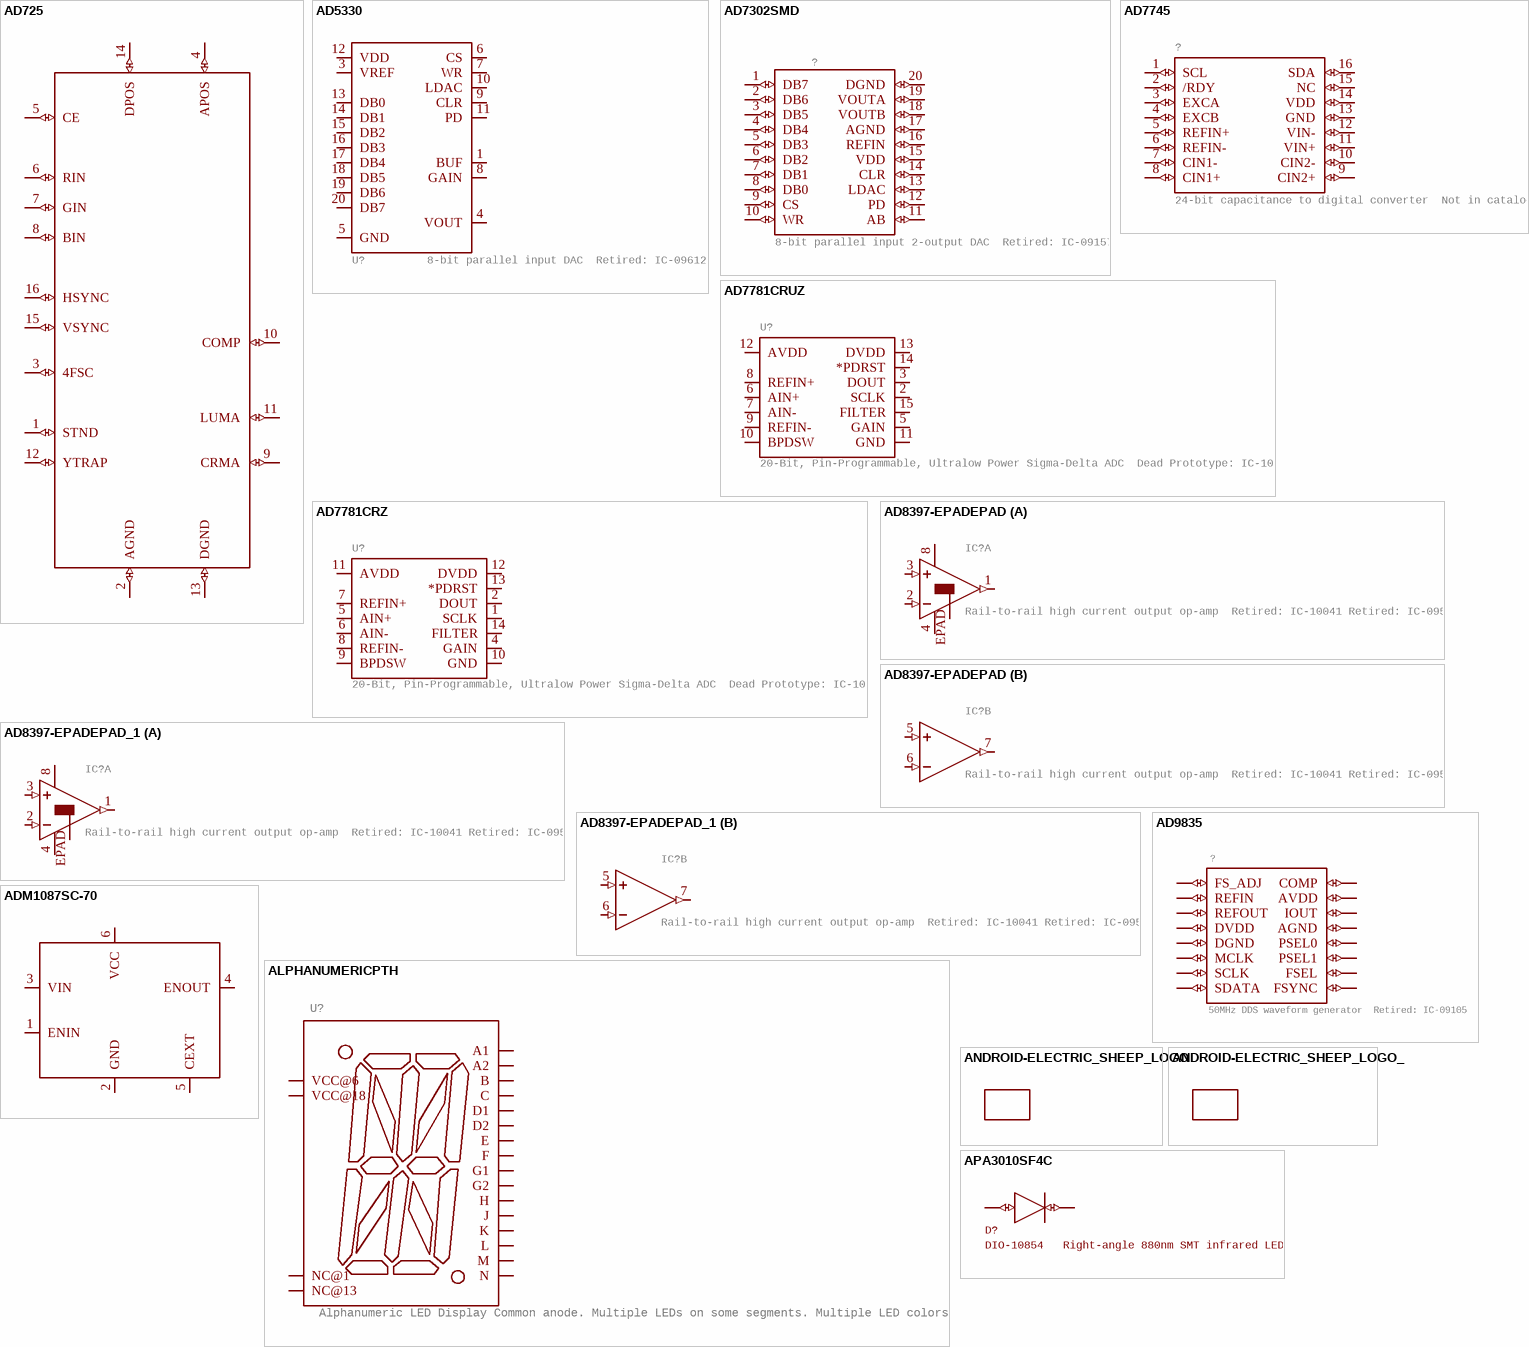
[diagram p3: symbols AD725 to APA3010SF4C]

## AD725
designator ?, comment RGB component to NTSC/PAL Encoder  Not in catalog  (value not drawn)
GateName_1: G$1; SymbolName_1: AD725; LibraryName: SparkFun-Retired; DeviceSetName: AD725; Package: SO16L
footprint SO16L
pins: 1 STND (io), 2 AGND (io), 3 4FSC (io), 4 APOS (io), 5 CE (io), 6 RIN (io), 7 GIN (io), 8 BIN (io), 9 CRMA (io), 10 COMP (io), 11 LUMA (io), 12 YTRAP (io), 13 DGND (io), 14 DPOS (io), 15 VSYNC (io), 16 HSYNC (io)

## AD5330
designator U?, comment 8-bit parallel input DAC  Retired: IC-09612
GateName_1: G$1; SymbolName_1: AD5330; LibraryName: SparkFun-Retired; DeviceSetName: AD5330; Package: TSSOP20
footprint TSSOP20
pins: 1 BUF (io), 3 VREF (io), 4 VOUT (io), 5 GND (io), 6 CS (io), 7 WR (io), 8 GAIN (io), 9 CLR (io), 10 LDAC (io), 11 PD (io), 12 VDD (io), 13 DB0 (io), 14 DB1 (io), 15 DB2 (io), 16 DB3 (io), 17 DB4 (io), 18 DB5 (io), 19 DB6 (io), 20 DB7 (io)

## AD7302SMD
designator ?, comment 8-bit parallel input 2-output DAC  Retired: IC-09157
GateName_1: G$1; SymbolName_1: AD7302; DeviceName: SMD; LibraryName: SparkFun-Retired; DeviceSetName: AD7302; Package: TSSOP20
footprint TSSOP20
pins: 1 DB7 (io), 2 DB6 (io), 3 DB5 (io), 4 DB4 (io), 5 DB3 (io), 6 DB2 (io), 7 DB1 (io), 8 DB0 (io), 9 CS (io), 10 WR (io), 11 AB (io), 12 PD (io), 13 LDAC (io), 14 CLR (io), 15 VDD (io), 16 REFIN (io), 17 AGND (io), 18 VOUTB (io), 19 VOUTA (io), 20 DGND (io)

## AD7745
designator ?, comment 24-bit capacitance to digital converter  Not in catalog
GateName_1: G$1; SymbolName_1: AD7745; LibraryName: SparkFun-Retired; DeviceSetName: AD7745; Package: TSSOP16
footprint TSSOP16
pins: 1 SCL (io), 2 /RDY (io), 3 EXCA (io), 4 EXCB (io), 5 REFIN+ (io), 6 REFIN- (io), 7 CIN1- (io), 8 CIN1+ (io), 9 CIN2+ (io), 10 CIN2- (io), 11 VIN+ (io), 12 VIN- (io), 13 GND (io), 14 VDD (io), 15 NC (io), 16 SDA (io)

## AD7781CRUZ
designator U?, comment 20-Bit, Pin-Programmable, Ultralow Power Sigma-Delta ADC  Dead Prototype: IC-10476
GateName_1: G$1; SymbolName_1: AD7781; DeviceName: CRUZ; LibraryName: SparkFun-Retired; DeviceSetName: AD7781; Package: TSSOP-16
footprint TSSOP-16
pins: 2 SCLK (io), 3 DOUT (io), 5 GAIN (io), 6 AIN+ (io), 7 AIN- (io), 8 REFIN+ (io), 9 REFIN- (io), 10 BPDSW (io), 11 GND (io), 12 AVDD (io), 13 DVDD (io), 14 *PDRST (io), 15 FILTER (io)

## AD7781CRZ
designator U?, comment 20-Bit, Pin-Programmable, Ultralow Power Sigma-Delta ADC  Dead Prototype: IC-10476
GateName_1: G$1; SymbolName_1: AD7781; DeviceName: CRZ; LibraryName: SparkFun-Retired; DeviceSetName: AD7781; Package: SOIC-14
footprint SOIC-14
pins: 1 SCLK (io), 2 DOUT (io), 4 GAIN (io), 5 AIN+ (io), 6 AIN- (io), 7 REFIN+ (io), 8 REFIN- (io), 9 BPDSW (io), 10 GND (io), 11 AVDD (io), 12 DVDD (io), 13 *PDRST (io), 14 FILTER (io)

## AD8397-EPADEPAD
designator IC?, comment Rail-to-rail high current output op-amp  Retired: IC-10041 Retired: IC-09592
GateName_1: A; SymbolName_1: OP-AMP+--1; GateName_2: B; SymbolName_2: OP-AMP-1; DeviceName: EPAD; DeviceSetName: AD8397-EPAD; LibraryName: SparkFun-Retired; Package: SO08-EPAD
footprint SO08-EPAD
part A pins: 1 OUT (out), 2 -IN (in), 3 +IN (in), 4 V- (power), 8 V+ (power), EPAD (io)
part B pins: 5 +IN (in), 6 -IN (in), 7 OUT (out)

## AD8397-EPADEPAD_1
designator IC?, comment Rail-to-rail high current output op-amp  Retired: IC-10041 Retired: IC-09592
GateName_1: A; SymbolName_1: OP-AMP+--1; GateName_2: B; SymbolName_2: OP-AMP-1; DeviceName: EPAD; DeviceSetName: AD8397-EPAD; LibraryName: SparkFun-Retired; Package: SO08-EPAD
footprint SO08-EPAD
part A pins: 1 OUT (out), 2 -IN (in), 3 +IN (in), 4 V- (power), 8 V+ (power), EPAD (io)
part B pins: 5 +IN (in), 6 -IN (in), 7 OUT (out)

## AD9835
designator ?, comment 50MHz DDS waveform generator  Retired: IC-09105
GateName_1: G$1; SymbolName_1: AD9835; LibraryName: SparkFun-Retired; DeviceSetName: AD9835; Package: TSSOP16
footprint TSSOP16
pins: 1 FS_ADJ (io), 2 REFIN (io), 3 REFOUT (io), 4 DVDD (io), 5 DGND (io), 6 MCLK (io), 7 SCLK (io), 8 SDATA (io), 9 FSYNC (io), 10 FSEL (io), 11 PSEL1 (io), 12 PSEL0 (io), 13 AGND (io), 14 IOUT (io), 15 AVDD (io), 16 COMP (io)

## ADM1087SC-70
designator ?, comment Power supply sequencer  (value not drawn)
GateName_1: G$1; SymbolName_1: ADM1087; DeviceName: SC-70; LibraryName: SparkFun-Retired; DeviceSetName: ADM1087; Package: SC-70
footprint SC-70
pins: 1 ENIN (io), 2 GND (io), 3 VIN (io), 4 ENOUT (io), 5 CEXT (io), 6 VCC (io)

## ALPHANUMERICPTH
designator U?, comment Alphanumeric LED Display Common anode. Multiple LEDs on some segments. Multiple LED colors available. Works great with A6282 driver IC. Decimal points are unfornately not connected. SKU: COM-09933.
GateName_1: G$1; DeviceName: PTH; SymbolName_1: ALPHANUMERIC; LibraryName: SparkFun-Retired; DeviceSetName: ALPHANUMERIC; Package: ALPHANUMERIC
footprint ALPHANUMERIC
pins: 1 NC@1 (io), 2 A1 (io), 3 H (io), 4 F (io), 6 VCC@6 (io), 7 G1 (io), 9 E (io), 10 D1 (io), 11 N (io), 12 M (io), 13 NC@13 (io), 14 D2 (io), 15 L (io), 16 C (io), 18 VCC@18 (io), 19 G2 (io), 21 B (io), 22 A2 (io), 23 K (io), 24 J (io)

## ANDROID-ELECTRIC_SHEEP_LOGO
designator LOGO?, comment Logos used for the Electric  Sheep  (value not drawn)
GateName_1: G$1; SymbolName_1: ANDROID-ELECTRIC_SHEEP_LOGO; SF_ID: DEV-10745; LibraryName: SparkFun-Retired; DeviceSetName: ANDROID-ELECTRIC_SHEEP_LOGO; Package: ANDROID-ELECTRIC_SHEEP_LOGO_SMALL
footprint ANDROID-ELECTRIC_SHEEP_LOGO_SMALL

## ANDROID-ELECTRIC_SHEEP_LOGO_
designator LOGO?, comment Logos used for the Electric  Sheep  (value not drawn)
GateName_1: G$1; SymbolName_1: ANDROID-ELECTRIC_SHEEP_LOGO; DeviceName: _; LibraryName: SparkFun-Retired; DeviceSetName: ANDROID-ELECTRIC_SHEEP_LOGO; Package: ANDROID-ELECTRIC_SHEEP_LOGO
footprint ANDROID-ELECTRIC_SHEEP_LOGO

## APA3010SF4C
designator D?, comment DIO-10854   Right-angle 880nm SMT infrared LED
GateName_1: G$1; SymbolName_1: APA3010SF4C; LibraryName: SparkFun-Retired; DeviceSetName: APA3010SF4C; Package: APA3010SF4C; PROD_ID: DIO-10854
footprint APA3010SF4C
pins: 1 (io), 2 (io)

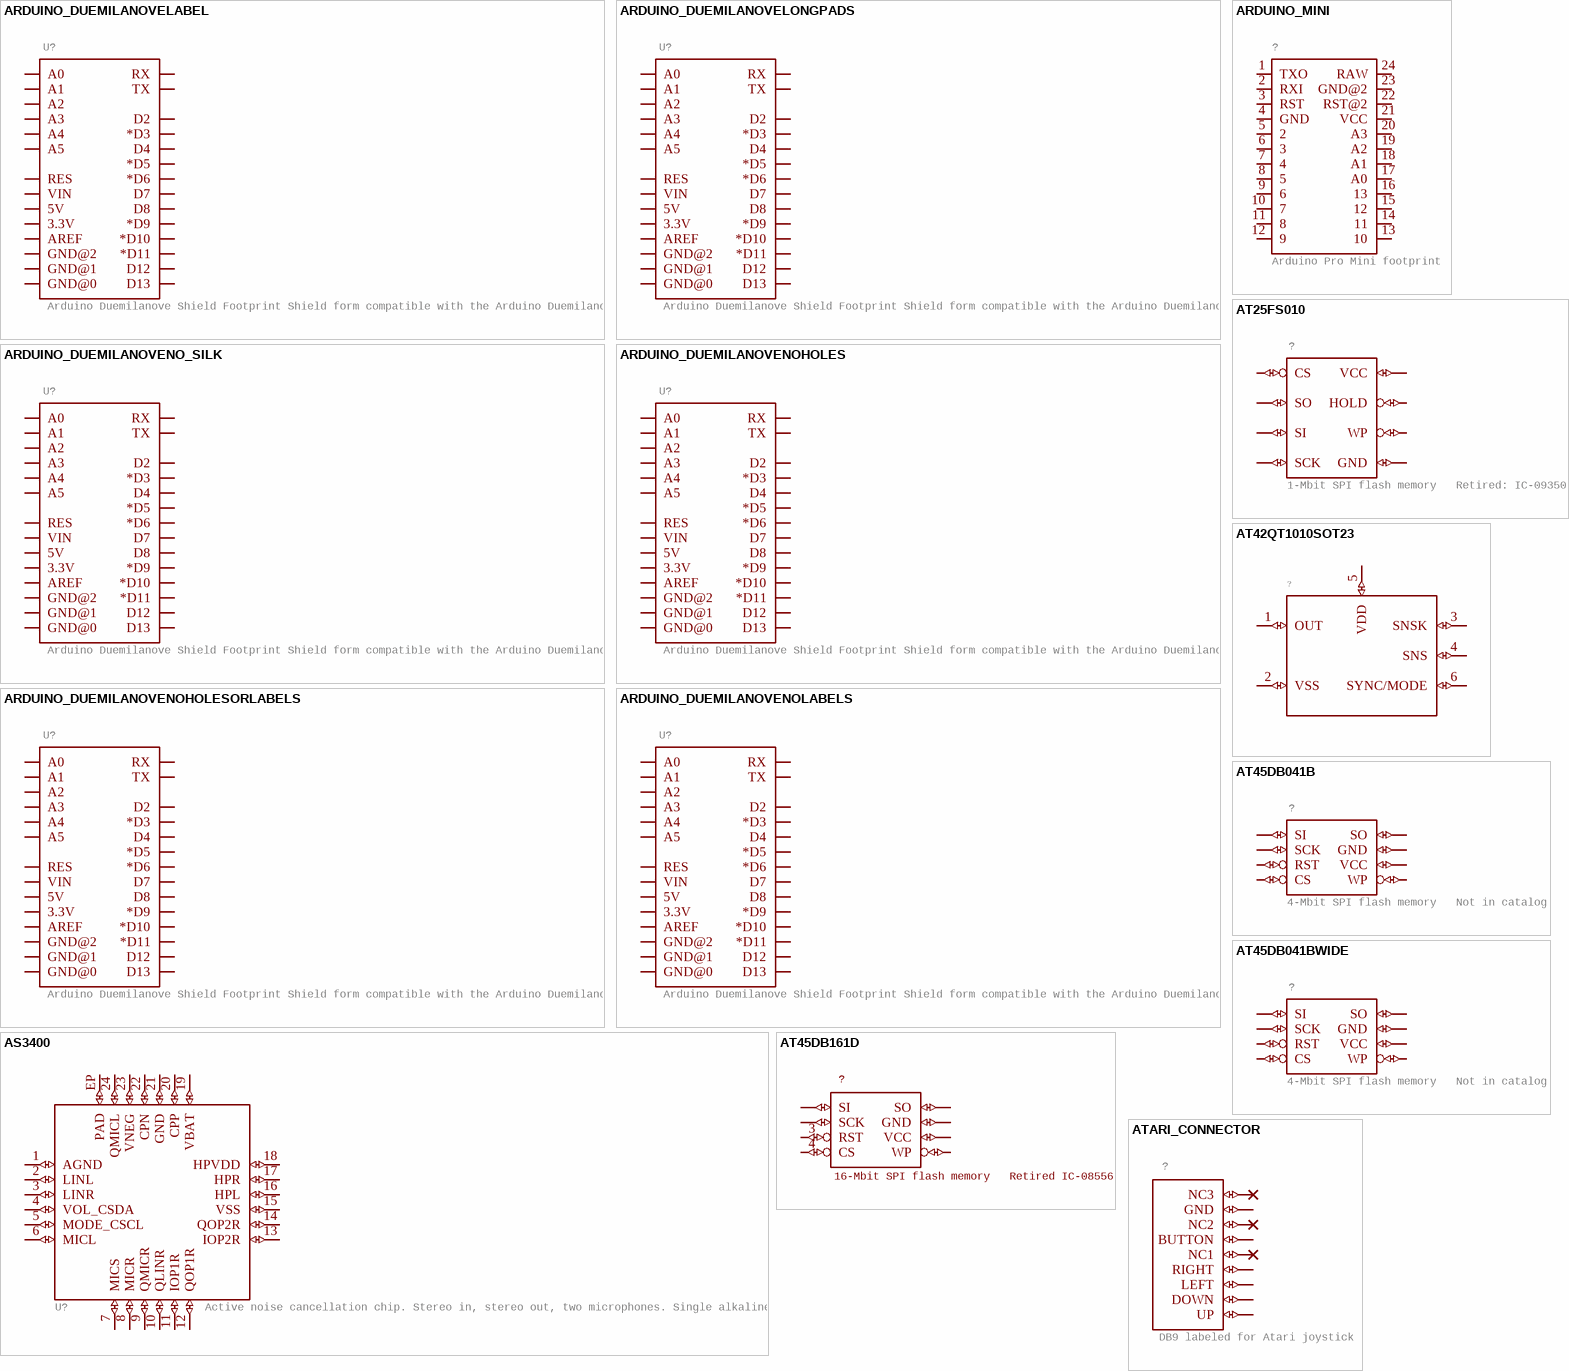
[diagram p4: symbols ARDUINO_DUEMILANOVELABEL to ATARI_CONNECTOR]

## ARDUINO_DUEMILANOVELABEL
designator U?, comment Arduino Duemilanove Shield Footprint Shield form compatible with the Arduino Duemilanove.
GateName_1: G$1; SymbolName_1: ARDUINO_SHIELD; DeviceName: LABEL; DeviceSetName: ARDUINO_DUEMILANOVE; LibraryName: SparkFun-Retired; Package: DUEMILANOVE_SHIELD
footprint DUEMILANOVE_SHIELD
pins: 3.3V (io), 5V (io), A0 (io), A1 (io), A2 (io), A3 (io), A4 (io), A5 (io), AREF (io), D2 (io), D3 *D3 (io), D4 (io), D5 *D5 (io), D6 *D6 (io), D7 (io), D8 (io), D9 *D9 (io), D10 *D10 (io), D11 *D11 (io), D12 (io), D13 (io), GND@0 (io), GND@1 (io), GND@2 (io), RES (io), RX (io), TX (io), VIN (io)

## ARDUINO_DUEMILANOVELONGPADS
designator U?, comment Arduino Duemilanove Shield Footprint Shield form compatible with the Arduino Duemilanove.
GateName_1: G$1; SymbolName_1: ARDUINO_SHIELD; DeviceName: LONGPADS; DeviceSetName: ARDUINO_DUEMILANOVE; LibraryName: SparkFun-Retired; Package: DUEMILANOVE_SHIELD_LONGPADS
footprint DUEMILANOVE_SHIELD_LONGPADS
pins: 3.3V (io), 5V (io), A0 (io), A1 (io), A2 (io), A3 (io), A4 (io), A5 (io), AREF (io), D2 (io), D3 *D3 (io), D4 (io), D5 *D5 (io), D6 *D6 (io), D7 (io), D8 (io), D9 *D9 (io), D10 *D10 (io), D11 *D11 (io), D12 (io), D13 (io), GND@0 (io), GND@1 (io), GND@2 (io), RES (io), RX (io), TX (io), VIN (io)

## ARDUINO_DUEMILANOVENO_SILK
designator U?, comment Arduino Duemilanove Shield Footprint Shield form compatible with the Arduino Duemilanove.
GateName_1: G$1; SymbolName_1: ARDUINO_SHIELD; DeviceName: NO_SILK; DeviceSetName: ARDUINO_DUEMILANOVE; LibraryName: SparkFun-Retired; Package: DUEMILANOVE_VIAS
footprint DUEMILANOVE_VIAS
pins: 3.3V (io), 5V (io), A0 (io), A1 (io), A2 (io), A3 (io), A4 (io), A5 (io), AREF (io), D2 (io), D3 *D3 (io), D4 (io), D5 *D5 (io), D6 *D6 (io), D7 (io), D8 (io), D9 *D9 (io), D10 *D10 (io), D11 *D11 (io), D12 (io), D13 (io), GND@0 (io), GND@1 (io), GND@2 (io), RES (io), RX (io), TX (io), VIN (io)

## ARDUINO_DUEMILANOVENOHOLES
designator U?, comment Arduino Duemilanove Shield Footprint Shield form compatible with the Arduino Duemilanove.
GateName_1: G$1; SymbolName_1: ARDUINO_SHIELD; DeviceName: NOHOLES; DeviceSetName: ARDUINO_DUEMILANOVE; LibraryName: SparkFun-Retired; Package: DUEMILANOVE_SHIELD_NOHOLES
footprint DUEMILANOVE_SHIELD_NOHOLES
pins: 3.3V (io), 5V (io), A0 (io), A1 (io), A2 (io), A3 (io), A4 (io), A5 (io), AREF (io), D2 (io), D3 *D3 (io), D4 (io), D5 *D5 (io), D6 *D6 (io), D7 (io), D8 (io), D9 *D9 (io), D10 *D10 (io), D11 *D11 (io), D12 (io), D13 (io), GND@0 (io), GND@1 (io), GND@2 (io), RES (io), RX (io), TX (io), VIN (io)

## ARDUINO_DUEMILANOVENOHOLESORLABELS
designator U?, comment Arduino Duemilanove Shield Footprint Shield form compatible with the Arduino Duemilanove.
GateName_1: G$1; SymbolName_1: ARDUINO_SHIELD; DeviceName: NOHOLESORLABELS; DeviceSetName: ARDUINO_DUEMILANOVE; LibraryName: SparkFun-Retired; Package: DUEMILANOVE_SHIELD_NOHOLES_NOLABELS
footprint DUEMILANOVE_SHIELD_NOHOLES_NOLABELS
pins: 3.3V (io), 5V (io), A0 (io), A1 (io), A2 (io), A3 (io), A4 (io), A5 (io), AREF (io), D2 (io), D3 *D3 (io), D4 (io), D5 *D5 (io), D6 *D6 (io), D7 (io), D8 (io), D9 *D9 (io), D10 *D10 (io), D11 *D11 (io), D12 (io), D13 (io), GND@0 (io), GND@1 (io), GND@2 (io), RES (io), RX (io), TX (io), VIN (io)

## ARDUINO_DUEMILANOVENOLABELS
designator U?, comment Arduino Duemilanove Shield Footprint Shield form compatible with the Arduino Duemilanove.
GateName_1: G$1; SymbolName_1: ARDUINO_SHIELD; DeviceName: NOLABELS; DeviceSetName: ARDUINO_DUEMILANOVE; LibraryName: SparkFun-Retired; Package: DUEMILANOVE_SHIELD_NOLABELS
footprint DUEMILANOVE_SHIELD_NOLABELS
pins: 3.3V (io), 5V (io), A0 (io), A1 (io), A2 (io), A3 (io), A4 (io), A5 (io), AREF (io), D2 (io), D3 *D3 (io), D4 (io), D5 *D5 (io), D6 *D6 (io), D7 (io), D8 (io), D9 *D9 (io), D10 *D10 (io), D11 *D11 (io), D12 (io), D13 (io), GND@0 (io), GND@1 (io), GND@2 (io), RES (io), RX (io), TX (io), VIN (io)

## ARDUINO_MINI
designator ?, comment Arduino Pro Mini footprint
GateName_1: G$1; SymbolName_1: ARDUINO_MINI; LibraryName: SparkFun-Retired; DeviceSetName: ARDUINO_MINI; Package: ARDUINO_MINI
footprint ARDUINO_MINI
pins: 1 TXO (io), 2 RXI (io), 3 RST (io), 4 GND (io), 5 2 (io), 6 3 (io), 7 4 (io), 8 5 (io), 9 6 (io), 10 7 (io), 11 8 (io), 12 9 (io), 13 10 (io), 14 11 (io), 15 12 (io), 16 13 (io), 17 A0 (io), 18 A1 (io), 19 A2 (io), 20 A3 (io), 21 VCC (io), 22 RST@2 (io), 23 GND@2 (io), 24 RAW (io)

## AS3400
designator U?, comment Active noise cancellation chip. Stereo in, stereo out, two microphones. Single alkaline cell power. QFN-24 w/exposed pad.  Dead Prototype: IC-10703
GateName_1: G$1; SymbolName_1: AS3400; LibraryName: SparkFun-Retired; DeviceSetName: AS3400; Package: QFN-24_ALT2
footprint QFN-24_ALT2
pins: 1 AGND (io), 2 LINL (io), 3 LINR (io), 4 VOL_CSDA (io), 5 MODE_CSCL (io), 6 MICL (io), 7 MICS (io), 8 MICR (io), 9 QMICR (io), 10 QLINR (io), 11 IOP1R (io), 12 QOP1R (io), 13 IOP2R (io), 14 QOP2R (io), 15 VSS (io), 16 HPL (io), 17 HPR (io), 18 HPVDD (io), 19 VBAT (io), 20 CPP (io), 21 GND (io), 22 CPN (io), 23 VNEG (io), 24 QMICL (io), EP PAD (io)

## AT25FS010
designator ?, comment 1-Mbit SPI flash memory   Retired: IC-09350
GateName_1: G$1; SymbolName_1: AT25FS010; LibraryName: SparkFun-Retired; DeviceSetName: AT25FS010; Package: SO08WIDE
footprint SO08WIDE
pins: 1 CS (io), 2 SO (io), 3 WP (io), 4 GND (io), 5 SI (io), 6 SCK (io), 7 HOLD (io), 8 VCC (io)

## AT42QT1010SOT23
designator ?
GateName_1: G$1; SymbolName_1: AT42QT1010; DeviceName: SOT23; LibraryName: SparkFun-Retired; DeviceSetName: AT42QT1010; Package: SOT23-6
footprint SOT23-6
pins: 1 OUT (io), 2 VSS (io), 3 SNSK (io), 4 SNS (io), 5 VDD (io), 6 SYNC/MODE (io)

## AT45DB041B
designator ?, comment 4-Mbit SPI flash memory   Not in catalog
GateName_1: G$1; SymbolName_1: AT45DB041B; LibraryName: SparkFun-Retired; DeviceSetName: AT45DB041B; Package: SO08
footprint SO08
pins: 1 SI (io), 2 SCK (io), 3 RST (io), 4 CS (io), 5 WP (io), 6 VCC (io), 7 GND (io), 8 SO (io)

## AT45DB041BWIDE
designator ?, comment 4-Mbit SPI flash memory   Not in catalog
GateName_1: G$1; SymbolName_1: AT45DB041B; DeviceName: WIDE; LibraryName: SparkFun-Retired; DeviceSetName: AT45DB041B; Package: SO08WIDE
footprint SO08WIDE
pins: 1 SI (io), 2 SCK (io), 3 RST (io), 4 CS (io), 5 WP (io), 6 VCC (io), 7 GND (io), 8 SO (io)

## AT45DB161D
designator ?, comment 16-Mbit SPI flash memory   Retired IC-08556
GateName_1: G$1; SymbolName_1: AT45DB161D; LibraryName: SparkFun-Retired; DeviceSetName: AT45DB161D; Package: SO08-EIAJ
footprint SO08-EIAJ
pins: 1 SI (io), 2 SCK (io), 3 RST (io), 4 CS (io), 5 WP (io), 6 VCC (io), 7 GND (io), 8 SO (io)

## ATARI_CONNECTOR
designator ?, comment DB9 labeled for Atari joystick
GateName_1: G$1; SymbolName_1: ATARI_CONNECTOR; LibraryName: SparkFun-Retired; DeviceSetName: ATARI_CONNECTOR; Package: ATARI_CONNECTOR
footprint ATARI_CONNECTOR
pins: P$1 BUTTON (io), P$2 NC2 (io), P$3 GND (io), P$4 NC3 (io), P$5 UP (io), P$6 DOWN (io), P$7 LEFT (io), P$8 RIGHT (io), P$9 NC1 (io)

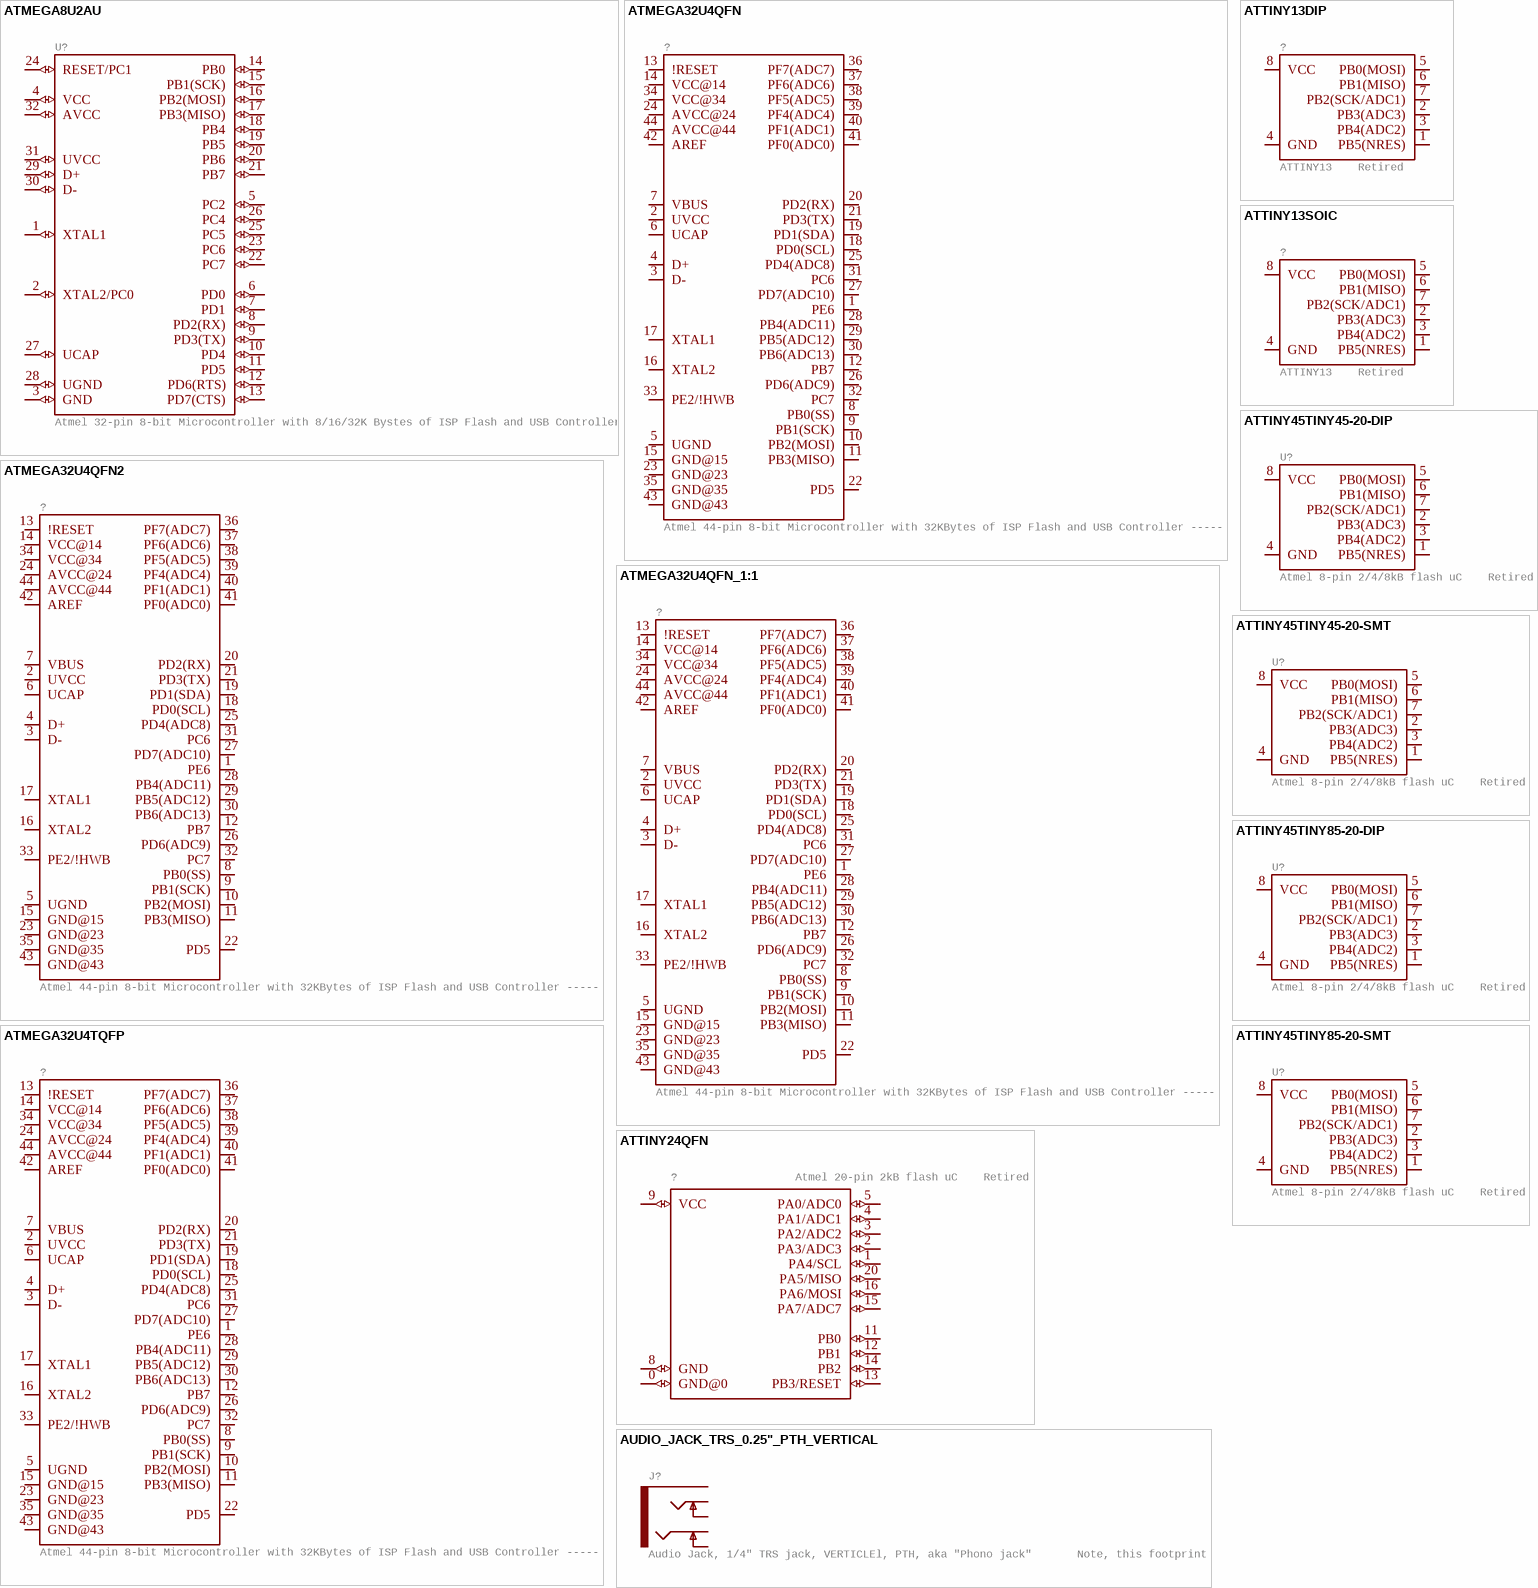
[diagram p5: symbols ATMEGA8U2AU to AUDIO_JACK_TRS_0.25"_PTH_VERTICAL]

## ATMEGA8U2AU
designator U?, comment Atmel 32-pin 8-bit Microcontroller with 8/16/32K Bystes of ISP Flash and USB Controller. ATmega8U2, ATmega16U2, and ATmega32U2    Datasheet SparkFun Products  Storefront component: ATMEGA8U2-AU (COM-13703)
GateName_1: G$1; DeviceName: AU; PROD_ID: IC-10104; SymbolName_1: ATMEGA8U2; LibraryName: SparkFun-Retired; DeviceSetName: ATMEGA8U2; Package: TQFP32-08_MCU
footprint TQFP32-08_MCU
pins: 1 XTAL1 (io), 2 XTAL2/PC0 (io), 3 GND (io), 4 VCC (io), 5 PC2 (io), 6 PD0 (io), 7 PD1 (io), 8 PD2(RX) (io), 9 PD3(TX) (io), 10 PD4 (io), 11 PD5 (io), 12 PD6(RTS) (io), 13 PD7(CTS) (io), 14 PB0 (io), 15 PB1(SCK) (io), 16 PB2(MOSI) (io), 17 PB3(MISO) (io), 18 PB4 (io), 19 PB5 (io), 20 PB6 (io), 21 PB7 (io), 22 PC7 (io), 23 PC6 (io), 24 RESET/PC1 (io), 25 PC5 (io), 26 PC4 (io), 27 UCAP (io), 28 UGND (io), 29 D+ (io), 30 D- (io), 31 UVCC (io), 32 AVCC (io)

## ATMEGA32U4QFN
designator ?, comment Atmel 44-pin 8-bit Microcontroller with 32KBytes of ISP Flash and USB Controller ----- Please use the QFN-44-NOPAD_1:1 package for the footprint of all boards using a 32U4. Route traces directly away from the pads as much as possible.
GateName_1: G$1; SymbolName_1: SPARKFUN-DIGITALIC_ATMEGA32U4; DeviceName: QFN; DeviceSetName: ATMEGA32U4; LibraryName: SparkFun-Retired; Package: SPARKFUN-DIGITALIC_QFN-44
footprint SPARKFUN-DIGITALIC_QFN-44
pins: 1 PE6 (io), 2 UVCC (io), 3 D- (io), 4 D+ (io), 5 UGND (io), 6 UCAP (io), 7 VBUS (io), 8 PB0(SS) (io), 9 PB1(SCK) (io), 10 PB2(MOSI) (io), 11 PB3(MISO) (io), 12 PB7 (io), 13 !RESET (io), 14 VCC@14 (io), 15 GND@15 (io), 16 XTAL2 (io), 17 XTAL1 (io), 18 PD0(SCL) (io), 19 PD1(SDA) (io), 20 PD2(RX) (io), 21 PD3(TX) (io), 22 PD5 (io), 23 GND@23 (io), 24 AVCC@24 (io), 25 PD4(ADC8) (io), 26 PD6(ADC9) (io), 27 PD7(ADC10) (io), 28 PB4(ADC11) (io), 29 PB5(ADC12) (io), 30 PB6(ADC13) (io), 31 PC6 (io), 32 PC7 (io), 33 PE2/!HWB (io), 34 VCC@34 (io), 35 GND@35 (io), 36 PF7(ADC7) (io), 37 PF6(ADC6) (io), 38 PF5(ADC5) (io), 39 PF4(ADC4) (io), 40 PF1(ADC1) (io), 41 PF0(ADC0) (io), 42 AREF (io), 43 GND@43 (io), 44 AVCC@44 (io)

## ATMEGA32U4QFN2
designator ?, comment Atmel 44-pin 8-bit Microcontroller with 32KBytes of ISP Flash and USB Controller ----- Please use the QFN-44-NOPAD_1:1 package for the footprint of all boards using a 32U4. Route traces directly away from the pads as much as possible.
GateName_1: G$1; SymbolName_1: SPARKFUN-DIGITALIC_ATMEGA32U4; DeviceName: QFN2; DeviceSetName: ATMEGA32U4; LibraryName: SparkFun-Retired; Package: SPARKFUN-DIGITALIC_QFN-44-NOPAD
footprint SPARKFUN-DIGITALIC_QFN-44-NOPAD
pins: 1 PE6 (io), 2 UVCC (io), 3 D- (io), 4 D+ (io), 5 UGND (io), 6 UCAP (io), 7 VBUS (io), 8 PB0(SS) (io), 9 PB1(SCK) (io), 10 PB2(MOSI) (io), 11 PB3(MISO) (io), 12 PB7 (io), 13 !RESET (io), 14 VCC@14 (io), 15 GND@15 (io), 16 XTAL2 (io), 17 XTAL1 (io), 18 PD0(SCL) (io), 19 PD1(SDA) (io), 20 PD2(RX) (io), 21 PD3(TX) (io), 22 PD5 (io), 23 GND@23 (io), 24 AVCC@24 (io), 25 PD4(ADC8) (io), 26 PD6(ADC9) (io), 27 PD7(ADC10) (io), 28 PB4(ADC11) (io), 29 PB5(ADC12) (io), 30 PB6(ADC13) (io), 31 PC6 (io), 32 PC7 (io), 33 PE2/!HWB (io), 34 VCC@34 (io), 35 GND@35 (io), 36 PF7(ADC7) (io), 37 PF6(ADC6) (io), 38 PF5(ADC5) (io), 39 PF4(ADC4) (io), 40 PF1(ADC1) (io), 41 PF0(ADC0) (io), 42 AREF (io), 43 GND@43 (io), 44 AVCC@44 (io)

## ATMEGA32U4QFN_1:1
designator ?, comment Atmel 44-pin 8-bit Microcontroller with 32KBytes of ISP Flash and USB Controller ----- Please use the QFN-44-NOPAD_1:1 package for the footprint of all boards using a 32U4. Route traces directly away from the pads as much as possible.
GateName_1: G$1; SymbolName_1: SPARKFUN-DIGITALIC_ATMEGA32U4; DeviceName: QFN_1:1; DeviceSetName: ATMEGA32U4; LibraryName: SparkFun-Retired; Package: QFN-44-NOPAD_1:1
footprint QFN-44-NOPAD_1:1
pins: 1 PE6 (io), 2 UVCC (io), 3 D- (io), 4 D+ (io), 5 UGND (io), 6 UCAP (io), 7 VBUS (io), 8 PB0(SS) (io), 9 PB1(SCK) (io), 10 PB2(MOSI) (io), 11 PB3(MISO) (io), 12 PB7 (io), 13 !RESET (io), 14 VCC@14 (io), 15 GND@15 (io), 16 XTAL2 (io), 17 XTAL1 (io), 18 PD0(SCL) (io), 19 PD1(SDA) (io), 20 PD2(RX) (io), 21 PD3(TX) (io), 22 PD5 (io), 23 GND@23 (io), 24 AVCC@24 (io), 25 PD4(ADC8) (io), 26 PD6(ADC9) (io), 27 PD7(ADC10) (io), 28 PB4(ADC11) (io), 29 PB5(ADC12) (io), 30 PB6(ADC13) (io), 31 PC6 (io), 32 PC7 (io), 33 PE2/!HWB (io), 34 VCC@34 (io), 35 GND@35 (io), 36 PF7(ADC7) (io), 37 PF6(ADC6) (io), 38 PF5(ADC5) (io), 39 PF4(ADC4) (io), 40 PF1(ADC1) (io), 41 PF0(ADC0) (io), 42 AREF (io), 43 GND@43 (io), 44 AVCC@44 (io)

## ATMEGA32U4TQFP
designator ?, comment Atmel 44-pin 8-bit Microcontroller with 32KBytes of ISP Flash and USB Controller ----- Please use the QFN-44-NOPAD_1:1 package for the footprint of all boards using a 32U4. Route traces directly away from the pads as much as possible.
GateName_1: G$1; SymbolName_1: SPARKFUN-DIGITALIC_ATMEGA32U4; DeviceName: TQFP; DeviceSetName: ATMEGA32U4; PROD_ID: IC-11161; LibraryName: SparkFun-Retired; Package: SPARKFUN-DIGITALIC_TQFP44
footprint SPARKFUN-DIGITALIC_TQFP44
pins: 1 PE6 (io), 2 UVCC (io), 3 D- (io), 4 D+ (io), 5 UGND (io), 6 UCAP (io), 7 VBUS (io), 8 PB0(SS) (io), 9 PB1(SCK) (io), 10 PB2(MOSI) (io), 11 PB3(MISO) (io), 12 PB7 (io), 13 !RESET (io), 14 VCC@14 (io), 15 GND@15 (io), 16 XTAL2 (io), 17 XTAL1 (io), 18 PD0(SCL) (io), 19 PD1(SDA) (io), 20 PD2(RX) (io), 21 PD3(TX) (io), 22 PD5 (io), 23 GND@23 (io), 24 AVCC@24 (io), 25 PD4(ADC8) (io), 26 PD6(ADC9) (io), 27 PD7(ADC10) (io), 28 PB4(ADC11) (io), 29 PB5(ADC12) (io), 30 PB6(ADC13) (io), 31 PC6 (io), 32 PC7 (io), 33 PE2/!HWB (io), 34 VCC@34 (io), 35 GND@35 (io), 36 PF7(ADC7) (io), 37 PF6(ADC6) (io), 38 PF5(ADC5) (io), 39 PF4(ADC4) (io), 40 PF1(ADC1) (io), 41 PF0(ADC0) (io), 42 AREF (io), 43 GND@43 (io), 44 AVCC@44 (io)

## ATTINY13DIP
designator ?, comment ATTINY13    Retired
GateName_1: G$1; DeviceName: DIP; SymbolName_1: ATTINY13; LibraryName: SparkFun-Retired; DeviceSetName: ATTINY13; Package: DIP08_MCU
footprint DIP08_MCU
pins: 1 PB5(NRES) (io), 2 PB3(ADC3) (io), 3 PB4(ADC2) (io), 4 GND (io), 5 PB0(MOSI) (io), 6 PB1(MISO) (io), 7 PB2(SCK/ADC1) (io), 8 VCC (io)

## ATTINY13SOIC
designator ?, comment ATTINY13    Retired
GateName_1: G$1; DeviceName: SOIC; SymbolName_1: ATTINY13; LibraryName: SparkFun-Retired; DeviceSetName: ATTINY13; Package: SO08_MCU
footprint SO08_MCU
pins: 1 PB5(NRES) (io), 2 PB3(ADC3) (io), 3 PB4(ADC2) (io), 4 GND (io), 5 PB0(MOSI) (io), 6 PB1(MISO) (io), 7 PB2(SCK/ADC1) (io), 8 VCC (io)

## ATTINY24QFN
designator ?, comment Atmel 20-pin 2kB flash uC    Retired
GateName_1: G$1; SymbolName_1: ATTINY24; DeviceName: QFN; LibraryName: SparkFun-Retired; DeviceSetName: ATTINY24; Package: QFN20_MCU
footprint QFN20_MCU
pins: 0 GND@0 (io), 1 PA4/SCL (io), 2 PA3/ADC3 (io), 3 PA2/ADC2 (io), 4 PA1/ADC1 (io), 5 PA0/ADC0 (io), 8 GND (io), 9 VCC (io), 11 PB0 (io), 12 PB1 (io), 13 PB3/RESET (io), 14 PB2 (io), 15 PA7/ADC7 (io), 16 PA6/MOSI (io), 20 PA5/MISO (io)

## ATTINY45TINY45-20-DIP
designator U?, comment Atmel 8-pin 2/4/8kB flash uC    Retired
GateName_1: G$1; SymbolName_1: ATTINY13; DeviceName: TINY45-20-DIP; DeviceSetName: ATTINY45; PROD_ID: IC-09439; LibraryName: SparkFun-Retired; Package: DIP08_MCU
footprint DIP08_MCU
pins: 1 PB5(NRES) (io), 2 PB3(ADC3) (io), 3 PB4(ADC2) (io), 4 GND (io), 5 PB0(MOSI) (io), 6 PB1(MISO) (io), 7 PB2(SCK/ADC1) (io), 8 VCC (io)

## ATTINY45TINY45-20-SMT
designator U?, comment Atmel 8-pin 2/4/8kB flash uC    Retired
GateName_1: G$1; SymbolName_1: ATTINY13; DeviceName: TINY45-20-SMT; DeviceSetName: ATTINY45; PROD_ID: IC-08922; LibraryName: SparkFun-Retired; Package: SO08-EIAJ_MCU
footprint SO08-EIAJ_MCU
pins: 1 PB5(NRES) (io), 2 PB3(ADC3) (io), 3 PB4(ADC2) (io), 4 GND (io), 5 PB0(MOSI) (io), 6 PB1(MISO) (io), 7 PB2(SCK/ADC1) (io), 8 VCC (io)

## ATTINY45TINY85-20-DIP
designator U?, comment Atmel 8-pin 2/4/8kB flash uC    Retired
GateName_1: G$1; SymbolName_1: ATTINY13; DeviceName: TINY85-20-DIP; DeviceSetName: ATTINY45; PROD_ID: IC-09445; LibraryName: SparkFun-Retired; Package: DIP08_MCU
footprint DIP08_MCU
pins: 1 PB5(NRES) (io), 2 PB3(ADC3) (io), 3 PB4(ADC2) (io), 4 GND (io), 5 PB0(MOSI) (io), 6 PB1(MISO) (io), 7 PB2(SCK/ADC1) (io), 8 VCC (io)

## ATTINY45TINY85-20-SMT
designator U?, comment Atmel 8-pin 2/4/8kB flash uC    Retired
GateName_1: G$1; SymbolName_1: ATTINY13; DeviceName: TINY85-20-SMT; DeviceSetName: ATTINY45; PROD_ID: IC-09092; LibraryName: SparkFun-Retired; Package: SO08-EIAJ_MCU
footprint SO08-EIAJ_MCU
pins: 1 PB5(NRES) (io), 2 PB3(ADC3) (io), 3 PB4(ADC2) (io), 4 GND (io), 5 PB0(MOSI) (io), 6 PB1(MISO) (io), 7 PB2(SCK/ADC1) (io), 8 VCC (io)

## AUDIO_JACK_TRS_0.25"_PTH_VERTICAL
designator J?, comment Audio Jack, 1/4" TRS jack, VERTICLEl, PTH, aka "Phono jack"       Note, this footprint is UN-proven. It has not yet been used by SparkFun on a design.
GateName_1: G$1; SymbolName_1: AUDIO-JACK5-TRS-NORMALED; DeviceSetName: AUDIO_JACK_TRS_0.25"_PTH_VERTICAL; PROD_ID: COM-11152; LibraryName: SparkFun-Retired; Package: AUDIO_JACK_0.25"_TRS_PTH_VERTICAL
footprint AUDIO_JACK_0.25"_TRS_PTH_VERTICAL
pins: RING (io), RING-NORM (io), SLEEVE EARTH (io), TIP (io), TIP-NORM (io)

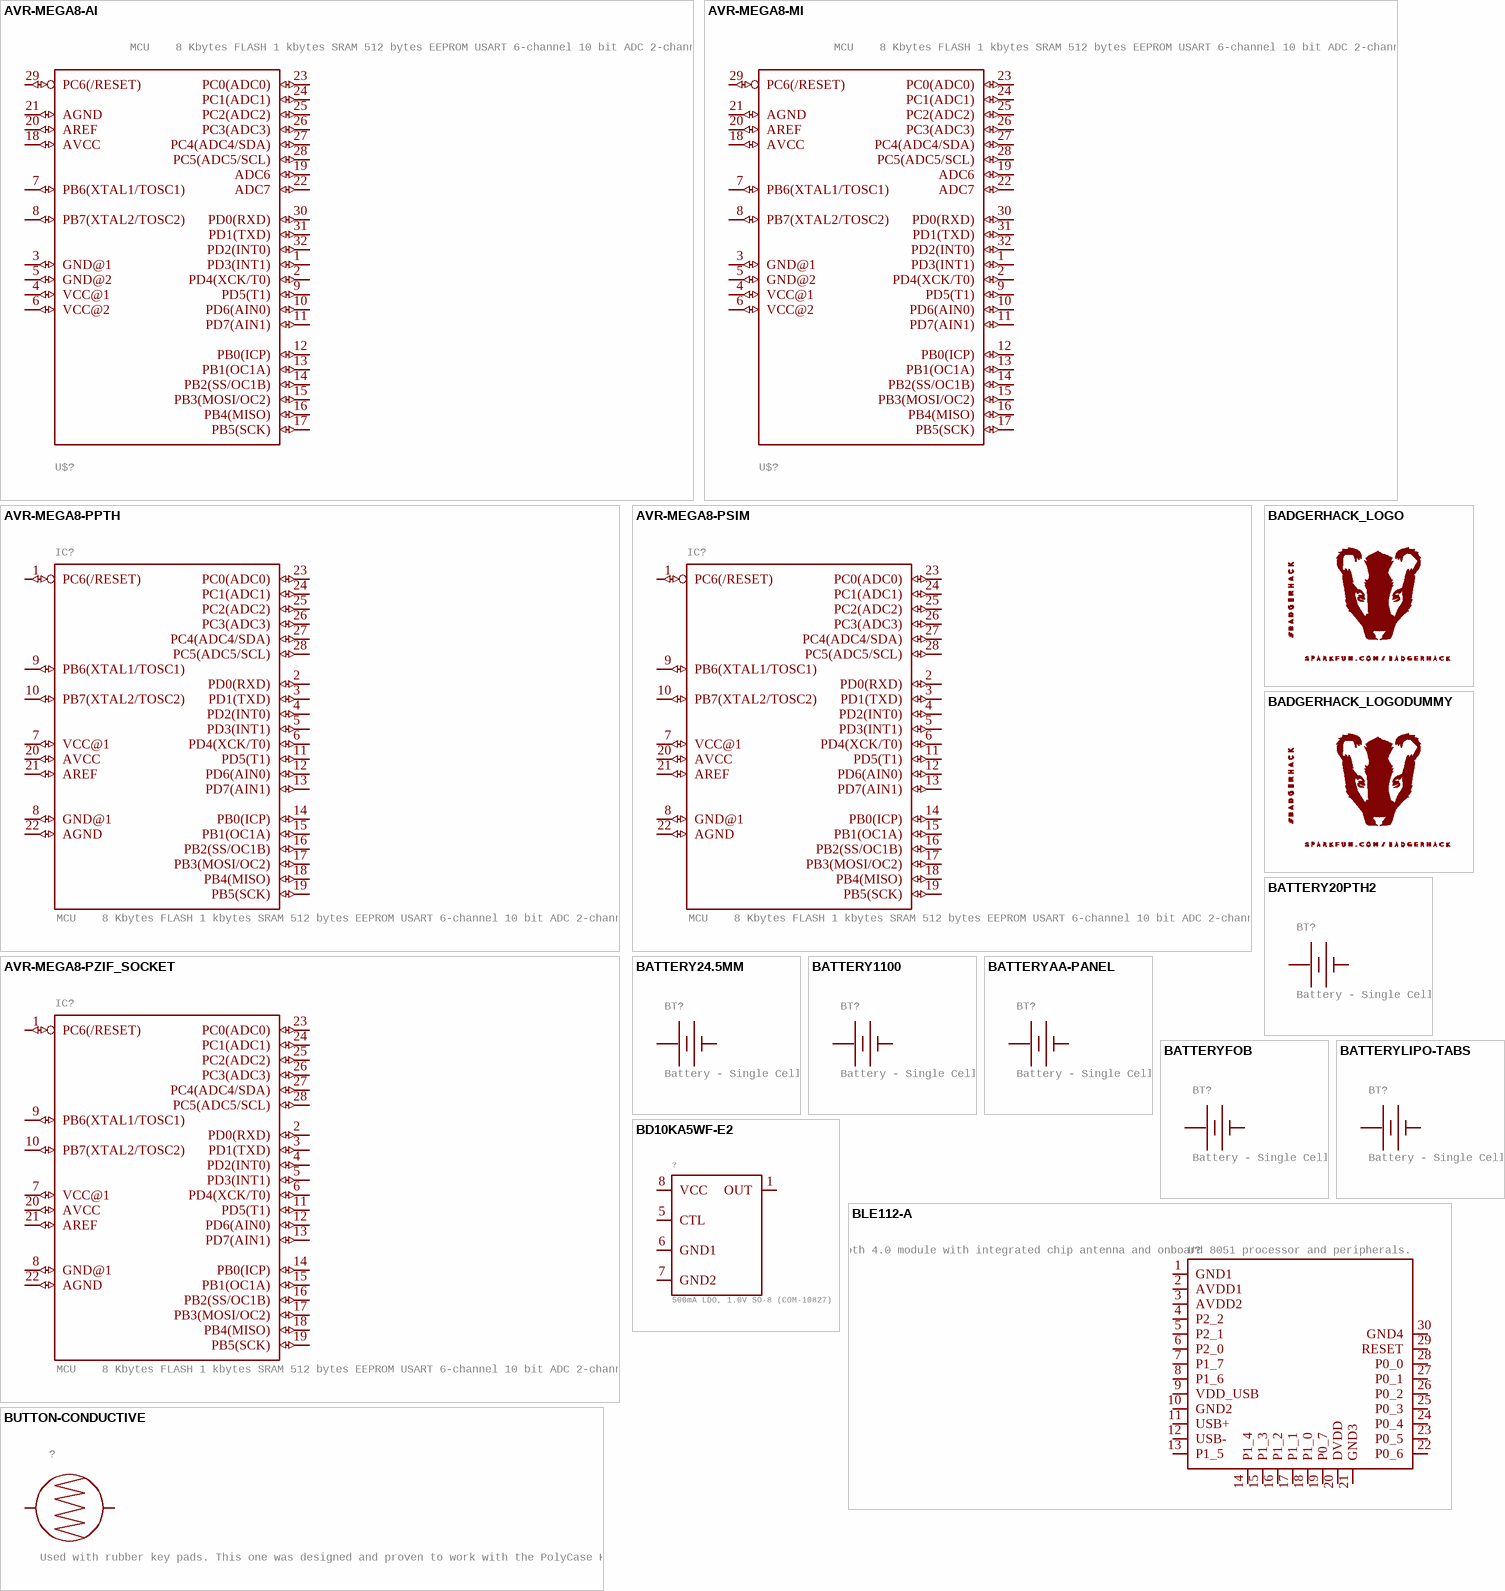
[diagram p6: symbols AVR-MEGA8-AI to BUTTON-CONDUCTIVE]